# Altium schematic symbol library XLib.SchLib: 198 symbols (part 1 of 2)
Pins are listed as number, name and electrical type; pins without a type are passive.

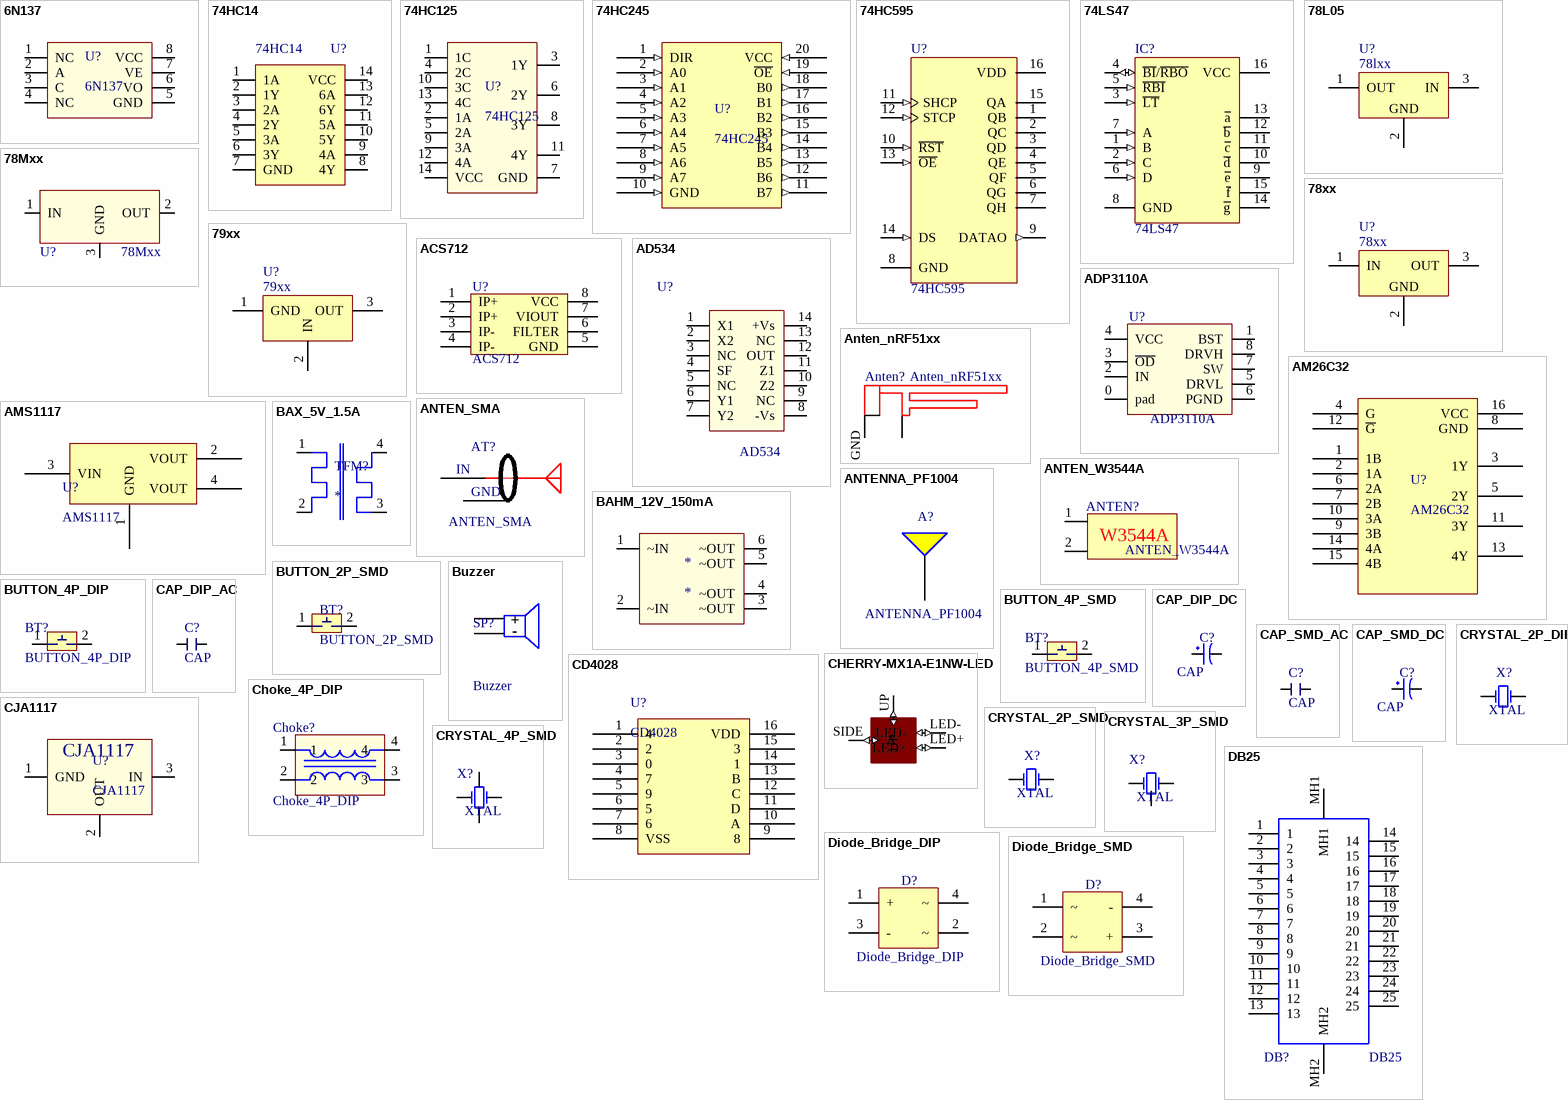
[diagram p0: symbols 6N137 to Diode_Bridge_SMD]

## 6N137
designator U?
footprint SMD_8
pins: 1 NC, 2 A, 3 C, 4 NC, 5 GND, 6 VO, 7 VE, 8 VCC

## 74HC14
designator U?
footprint SOIC14
pins: 1 1A, 2 1Y, 3 2A, 4 2Y, 5 3A, 6 3Y, 7 GND, 8 4Y, 9 4A, 10 5Y, 11 5A, 12 6Y, 13 6A, 14 VCC

## 74HC125
designator U?
Quad. Bus Buffer Gates (with 3-state outputs).
footprint SOIC14
pins: 1 1C, 2 1A, 3 1Y, 4 2C, 5 2A, 6 2Y, 7 GND, 8 3Y, 9 3A, 10 3C, 11 4Y, 12 4A, 13 4C, 14 VCC

## 74HC245
designator U?
Octal 3−State Noninverting Bus Tranceiver
footprint SOIC20 (SOIC, 20-Leads, Body 12.8x7.5mm, Pitch 1.27mm, IPC Medium Density)
footprint TSSOP20 (Shrink Small Outline; 20 Leads; Body Width 4.4 mm; Pitch 0.65 mm)
pins: 1 DIR (in), 2 A0 (in), 3 A1 (in), 4 A2 (in), 5 A3 (in), 6 A4 (in), 7 A5 (in), 8 A6 (in), 9 A7 (in), 10 GND (in), 11 B7 (out), 12 B6 (out), 13 B5 (out), 14 B4 (out), 15 B3 (out), 16 B2 (out), 17 B1 (out), 18 B0 (out), 19 ~{OE} (in), 20 VCC (in)

## 74HC595
designator U?
IC 8-Bit Serial-Input/Serial or Prallel-Output Shift Register with Latched 3-State Outputs; Published: 15-Apr-2002; DatasheetVersion: Mar-2000; PackageVersion: Apr-2000; PackageReference: 648-08; Publisher: Altium Limited; PackageDescription: DIP; 16 Leads; Row Spacing 7.62 mm; Pitch 2.54 mm; Code_JEDEC: MS-001-BB; ComponentLink1Description: Manufacturer Link; ComponentLink1URL: http://www.onsemi.com/; ComponentLink2Description: Datasheet; ComponentLink2URL: http://www.onsemi.com/pub/Collateral/MC74HC595A-D.PDF
footprint DIP16 (Footprint not found)
footprint SOP16 (Small Outline; 16 Leads; Body Width 5.6 mm; Pitch 1.27 mm)
pins: 1 QB (hiz), 2 QC (hiz), 3 QD (hiz), 4 QE (hiz), 5 QF (hiz), 6 QG (hiz), 7 QH (hiz), 8 GND (power), 9 DATAO (out), 10 ~{RST} (in), 11 SHCP (in), 12 STCP (in), 13 ~{OE} (in), 14 DS (in), 15 QA (hiz), 16 VDD (power)

## 74LS47
designator IC?
BCD to 7-Segment Decoder/Driver; Value: 7447 , 74247
footprint DIP16 (16 PIN, W 300mil, Pin to pin 100mil)
footprint SOIC16 (Small Outline; 16 Leads; Body Width 5.6 mm; Pitch 1.27 mm)
pins: 1 B (in), 2 C (in), 3 ~{LT} (in), 4 ~{BI}/~{RBO} (io), 5 ~{RBI} (in), 6 D (in), 7 A (in), 8 GND (power), 9 ~{e} (oc), 10 ~{d} (oc), 11 ~{c} (oc), 12 ~{b} (oc), 13 ~{a} (oc), 14 ~{g} (oc), 15 ~{f} (oc), 16 VCC (power)

## 78L05
designator U?, comment 78lxx
78L05 SOT89_MH; Note: Tab is connected to pin 3 (GND).; Published: 24-Aug-2001; LatestRevisionDate: 17-Jul-2002; LatestRevisionNote: Re-released for DXP Platform.; DatasheetVersion: Apr-1994; PackageReference: SOT82C; Publisher: Altium Limited; PackageDescription: SIP; 3 Leads; Body 10.9 x 7.6 x 2.6 mm (typ); Pitch 2.2 mm; ComponentLink1Description: Manufacturer Link; ComponentLink1URL: http://www.st.com/; ComponentLink2Description: Datasheet; ComponentLink2URL: http://www.st.com/stonline/products/literature/ds/2146/l78m05c.pdf
footprint SOT89
pins: 1 OUT (power), 2 GND (power), 3 IN (power)

## 78Mxx
designator U?
footprint TO-252; pin to pad 2>3 3>2
pins: 1 IN, 2 OUT, 3 GND

## 78xx
designator U?
Note: Tab is connected to pin 3 (GND).; Published: 24-Aug-2001; LatestRevisionDate: 17-Jul-2002; LatestRevisionNote: Re-released for DXP Platform.; DatasheetVersion: Apr-1994; PackageReference: SOT82C; Publisher: Altium Limited; PackageDescription: SIP; 3 Leads; Body 10.9 x 7.6 x 2.6 mm (typ); Pitch 2.2 mm; ComponentLink1Description: Manufacturer Link; ComponentLink1URL: http://www.st.com/; ComponentLink2Description: Datasheet; ComponentLink2URL: http://www.st.com/stonline/products/literature/ds/2146/l78m05c.pdf
footprint TO220
footprint TO220DH (TO-220 - 1-2-3)
footprint TO220H1 (TO-220 - 1-2-3)
footprint TO220H2 (TO-220 - 1-2-3)
footprint TO220H3 (TO-220 1-2-3)
footprint TO220H4 (TO-220 1-2-3)
footprint TO220H4DH
footprint TO220UH (TO-220 - 1-2-3)
pins: 1 IN (power), 2 IN (power), 3 OUT (power)
text: GND

## 79xx
designator U?
Note: Tab is connected to pin 3 (GND).; Published: 24-Aug-2001; LatestRevisionDate: 17-Jul-2002; LatestRevisionNote: Re-released for DXP Platform.; DatasheetVersion: Apr-1994; PackageReference: SOT82C; Publisher: Altium Limited; PackageDescription: SIP; 3 Leads; Body 10.9 x 7.6 x 2.6 mm (typ); Pitch 2.2 mm; ComponentLink1Description: Manufacturer Link; ComponentLink1URL: http://www.st.com/; ComponentLink2Description: Datasheet; ComponentLink2URL: http://www.st.com/stonline/products/literature/ds/2146/l78m05c.pdf
footprint TO220
footprint TO220DH (TO-220 - 1-2-3)
footprint TO220H1 (TO-220 - 1-2-3)
footprint TO220H2 (TO-220 - 1-2-3)
footprint TO220H3 (TO-220 1-2-3)
footprint TO220H4 (TO-220 1-2-3)
footprint TO220H4DH
footprint TO220UH (TO-220 - 1-2-3)
pins: 1 GND (power), 2 IN (power), 3 OUT (power)

## ACS712
designator U?
IC Current Sensor
footprint SOP8
pins: 1 IP+, 2 IP+, 3 IP-, 4 IP-, 5 GND, 6 FILTER, 7 VIOUT, 8 VCC

## AD534
designator U?
footprint DIP14
pins: 1 X1, 2 X2, 3 NC, 4 SF, 5 NC, 6 Y1, 7 Y2, 8 -Vs, 9 NC, 10 Z2, 11 Z1, 12 OUT, 13 NC, 14 +Vs

## ADP3110A
designator U?
IC
footprint DFN8-3x3
pins: 0 pad, 1 BST, 2 IN, 3 ~{OD}, 4 VCC, 5 DRVL, 6 PGND, 7 SW, 8 DRVH

## AM26C32
designator U?
Quadruple Differential Line Receiver
footprint DIP16 (16 PIN, W 300mil, Pin to pin 100mil)
footprint SOIC16 (Small Outline; 16 Leads; Body Width 5.6 mm; Pitch 1.27 mm)
pins: 1 1B, 2 1A, 3 1Y, 4 G, 5 2Y, 6 2A, 7 2B, 8 GND, 9 3B, 10 3A, 11 3Y, 12 ~{G}, 13 4Y, 14 4A, 15 4B, 16 VCC

## AMS1117
designator U?
IC LDO
footprint SOT223
pins: 1 GND, 2 VOUT, 3 VIN, 4 VOUT

## Anten_nRF51xx
designator Anten?
footprint ANTENA_RF_2.4GHZ
pins: 1, GND 2

## ANTEN_SMA
designator AT?
footprint ANTEN_SMA_SMD_BOARD_EDGE
footprint ANTEN_SMA_DIP_5P
pins: 1 IN, GND

## ANTEN_W3544A
designator ANTEN?
footprint ANTEN_W3544a
pins: 1, 2
text: W3544A

## ANTENNA_PF1004
designator A?
footprint ANTEN_PF1004
pins: 1

## BAHM_12V_150mA
designator *
footprint BAHM_12V_150mA
pins: 1 ~IN (power), 2 ~IN (power), 3 ~OUT (power), 4 ~OUT (power), 5 ~OUT (power), 6 ~OUT (power)

## BAX_5V_1.5A
designator TFM?
footprint bax_5V_1.5A
pins: 1, 2, 3, 4

## BUTTON_2P_SMD
designator BT?
footprint BUTTON_2P_SMD_3X6X2.5MM
footprint BUTTON_2P_SMD_3X4X2MM
footprint BUTTON_2P_SMD_3x7x3.5mm
pins: 1, 2

## BUTTON_4P_DIP
designator BT?
footprint BUTTON_4P_DIP_12x12-B3F
pins: 1, 2

## BUTTON_4P_SMD
designator BT?
footprint BUTTON_4P_SMD_6.2x6.2MM
footprint BUTTON_4P_SMD_12x12-B3F
footprint BUTTON_4P_SMD_3X4X2MM
footprint BUTTON_4P_SMD_3X4X2.5MM
footprint BUTTON_4P_SMD_4X4X1.2
footprint BUTTON_4P_SMD_4.5X4.5
pins: 1, 2

## Buzzer
designator SP?
Loudspeaker; Published: 24-Mar-1999; LatestRevisionDate: 17-Jul-2002; LatestRevisionNote: Re-released for DXP Platform.; PackageReference: PIN2; Publisher: Altium Limited
footprint BUZZER
pins: 1 +, 2 -

## CAP_DIP_AC
designator C?, comment CAP
footprint CAP_CBB_15MM
footprint CAP_CBB_19MM
footprint CAP_CER-2.54MM
footprint CAP_PP_15MM-18x8x14MM
footprint CAP_CBB_25MM
footprint CAP_HV_D6_P5
footprint CAP_CBB_5MM
pins: 1, 2

## CAP_DIP_DC
designator C?, comment CAP
footprint CAP_ELEC-5MM (Tu hoa < 22uF/16>50V)
footprint CAP_ELEC-8mm
footprint CAP_ELEC-10mm
footprint CAP_ELEC-18MM (Tu hoa 4700uF/25V)
footprint CAP_ELEC-22MM
footprint CAP_SMD_TANTA_3216
footprint CAP_SMD_TANTA_6032
footprint CAP_SMD_TANTA_7343
pins: 1, 2

## CAP_SMD_AC
designator C?, comment CAP
footprint CAP_SMD_0402
footprint CAP_SMD_0603
footprint CAP_SMD_0805
footprint CAP_SMD_1206
footprint CAP_SMD_1812
footprint CAP_SMD_2520
pins: 1, 2

## CAP_SMD_DC
designator C?, comment CAP
footprint CAP_SMD_TANTA_3216
footprint CAP_SMD_TANTA_6032
footprint CAP_SMD_TANTA_7343
footprint CAP_SMD_TANTA_3528
pins: 1, 2

## CD4028
designator U?
footprint SOP16 (Small Outline; 16 Leads; Body Width 5.6 mm; Pitch 1.27 mm)
pins: 1 4, 2, 3 0, 4 7, 5 9, 6 5, 7 6, 8 VSS, 9 8, 10 A, 11 D, 12 C, 13 B, 14 1, 15 3, 16 VDD

## CHERRY-MX1A-E1NW-LED
designator ?, comment A cherry MX NW switch, but also with a place to put a LED  (value not drawn)
GateName_1: G$1; SymbolName_1: CHERYMX-NN-LED; DeviceSetName: CHERRY-MX1A-E1NW-LED; LibraryName: my_parts; Package: CHERRYMX-NN-LED
footprint CHERRYMX-NN-LED
pins: LED+ (io), LED- (io), SIDE A (io), UP (io)

## Choke_4P_DIP
designator Choke?
footprint CHOKE_COMMON_MODE_UU10.5
pins: 1, 2, 3, 4

## CJA1117
designator U?
footprint SOT89
pins: 1 GND, 2 OUT, 3 IN

## CRYSTAL_2P_DIP
designator X?, comment XTAL
footprint HC49S_CRYSTAL (Footprint not found)
pins: 1 OSC1, 2 OSC2

## CRYSTAL_2P_SMD
designator X?, comment XTAL
footprint CRYSTAL_SMD_2P_FC-135 (Hand Drawn, 2-Leads, Body 3.2x1.5mm, Pitch 2.5mm)
footprint CRYSTAL_SMD_2P_5032
pins: 1 OSC1, 2 OSC2

## CRYSTAL_3P_SMD
designator X?, comment XTAL
footprint Crystal Ceramic_Resonator 3.2x1.3x0.7mm
pins: 1 OSC1, 2 OSC2, 3 OSC2

## CRYSTAL_4P_SMD
designator X?, comment XTAL
footprint CRYSTAL_SMD_4P_6035
footprint CRYSTAL_SMD_4P_3225
pins: 1 OSC1, 2 OSC2, 3 OSC2, 4 OSC2

## DB25
designator DB?
footprint DB25_DN
pins: 1, 2, 3, 4, 5, 6, 7, 8, 9, 10, 11, 12, 13, 14, 15, 16, 17, 18, 19, 20, 21, 22, 23, 24, 25, MH1, MH2

## Diode_Bridge_DIP
designator D?
footprint DIODE_BRIDGE_10A
footprint DIODE_BRIDGE_25-23A
footprint DIODE_BRIDGE_1A
footprint DIODE_BRIDGE_2A (CAU 2A DET)
footprint DIODE_BRIDGE_5A (Brigde 5A)
footprint DIODE_BRIDGE_6A (Brigde 6A)
footprint DIODE_BRIDGE_8A (Brigde 8A)
footprint DIODE_BRIDGE_35A (35A/1000V)
pins: 1 +, 2 ~, 3 -, 4 ~

## Diode_Bridge_SMD
designator D?
footprint SOP4-BD
pins: 1 ~, 2 ~, 3 +, 4 -

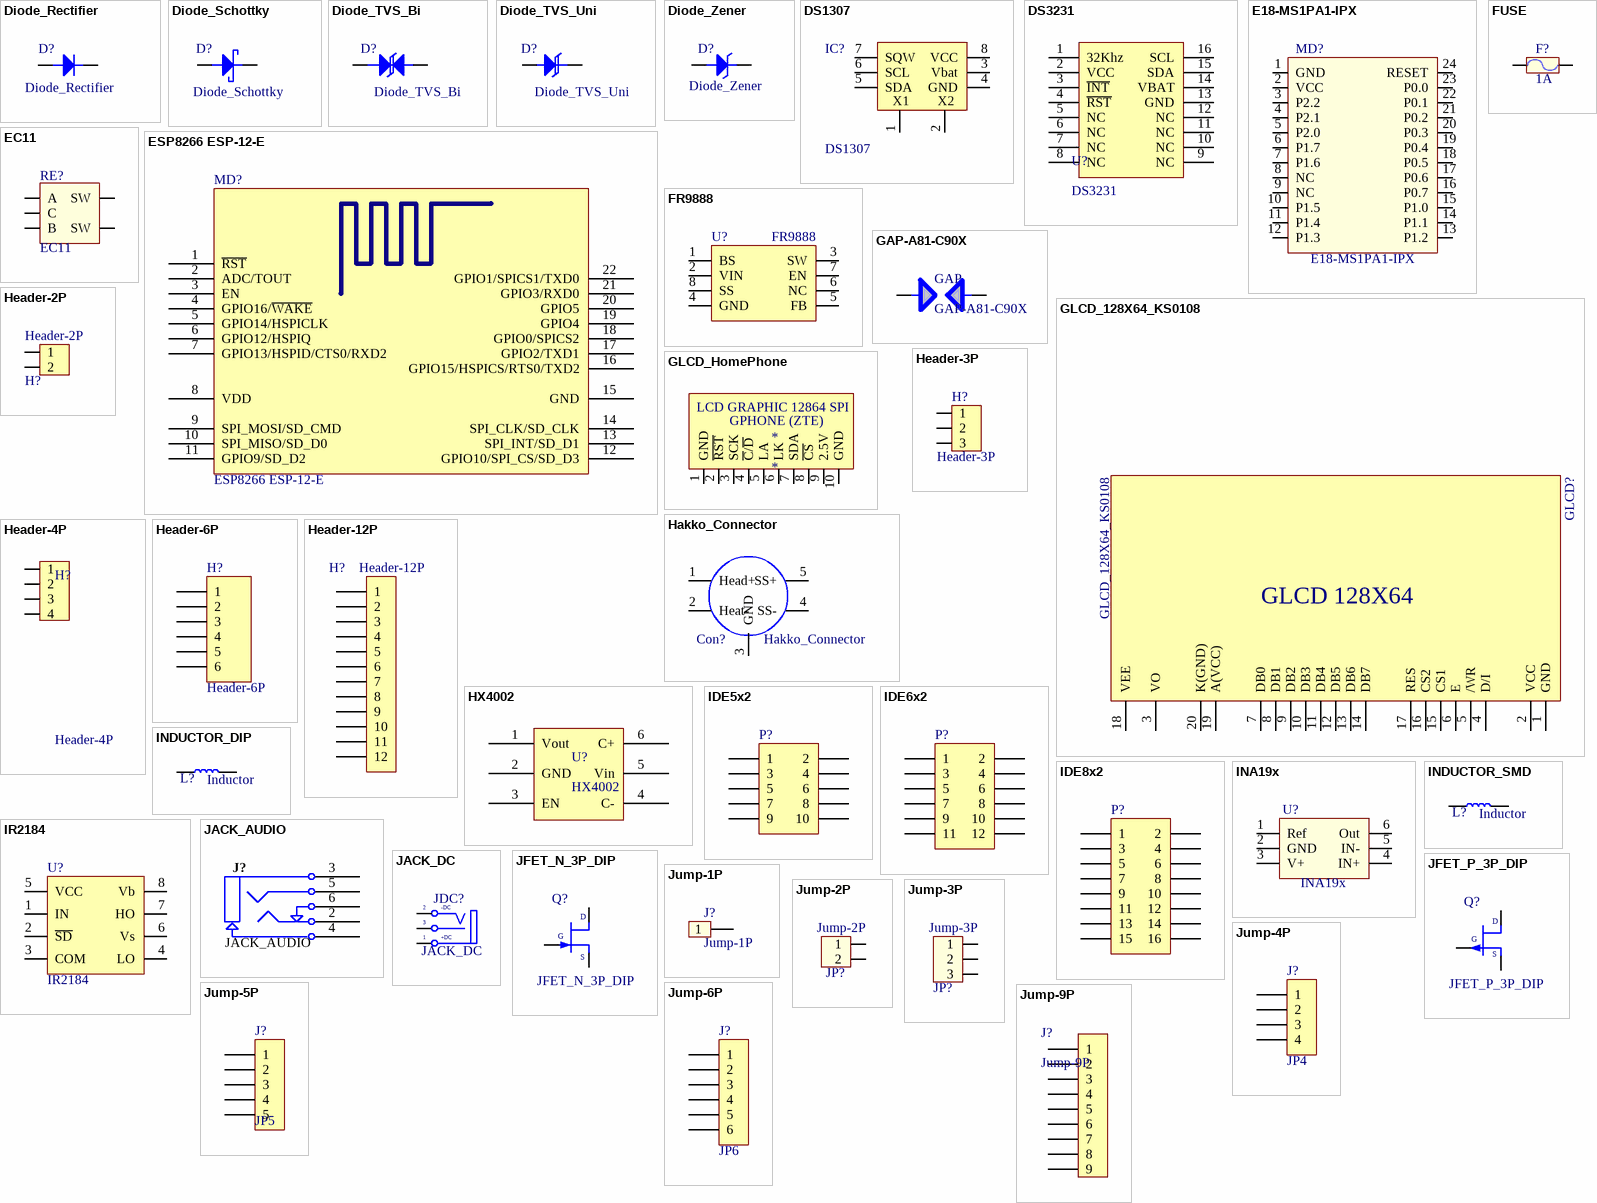
[diagram p1: symbols Diode_Rectifier to Jump-9P]

## Diode_Rectifier
designator D?
footprint SOD123
footprint DO-35
footprint DO-214AB
footprint SMA
footprint DO-41
footprint DO-201-AD
pins: 1, 2

## Diode_Schottky
designator D?
footprint SOD80
footprint DO35
footprint SOD123
footprint DO214
footprint SMA
footprint sod523 (SODFL, 2-Leads, Body 0.80x1.60mm, IPC Medium Density)
footprint DO214AB
pins: 1, 2

## Diode_TVS_Bi
designator D?
footprint SOD80
footprint DO35
footprint SOD123
footprint DO214
footprint SMA
footprint SMB (Magnetic-Core Inductor with Winding Polarity Marking; 2 Leads)
pins: 1, 2

## Diode_TVS_Uni
designator D?
footprint SOD80
footprint DO35
footprint SOD123
footprint DO214
footprint SMA
footprint SMB (Magnetic-Core Inductor with Winding Polarity Marking; 2 Leads)
pins: 1, 2

## Diode_Zener
designator D?
footprint SOD80
footprint DO35
footprint SOD123
footprint DO214
footprint SMA
footprint DO214AB
footprint SMB
pins: 1, 2

## DS1307
designator IC?
Value: DS1307
footprint SOP8
pins: 1 X1, 2 X2, 3 Vbat, 4 GND, 5 SDA, 6 SCL, 7 SQW, 8 VCC

## DS3231
designator U?
footprint SO16
pins: 1 32Khz (power), 2 VCC (power), 3 ~{INT} (power), 4 ~{RST} (power), 5 NC (power), 6 NC (power), 7 NC (power), 8 NC (power), 9 NC (power), 10 NC (power), 11 NC (power), 12 NC (power), 13 GND (power), 14 VBAT (power), 15 SDA (power), 16 SCL (power)

## E18-MS1PA1-IPX
designator MD?
footprint E18-MS1PA1-IPX
pins: 1 GND, 2 VCC, 3 P2.2, 4 P2.1, 5 P2.0, 6 P1.7, 7 P1.6, 8 NC, 9 NC, 10 P1.5, 11 P1.4, 12 P1.3, 13 P1.2, 14 P1.1, 15 P1.0, 16 P0.7, 17 P0.6, 18 P0.5, 19 P0.4, 20 P0.3, 21 P0.2, 22 P0.1, 23 P0.0, 24 RESET

## EC11
designator RE?
Rotary Encoder
footprint EC11
pins: 1 A, 2 C, 3 B, 4 SW, 5 SW

## ESP8266 ESP-12-E
designator MD?
footprint ESP8266-12 (ESP8266)
footprint MD_ESP8266_12F (ESP8266)
pins: 1 ~{RST} "Reset", 2 ADC/TOUT "ADC Input Or TOUT Output", 3 EN "Chip enable", 4 GPIO16/~{WAKE} "GPIO16 or Deep-Sleep Wakeup", 5 GPIO14/HSPICLK "GPIO14 or SPI CLK", 6 GPIO12/HSPIQ "GPIO12 or SPIQ", 7 GPIO13/HSPID/CTS0/RXD2 "GPIO13 or SPID", 8 VDD "Power supply", 9 SPI_MOSI/SD_CMD "GPIO14 or SPI CLK", 10 SPI_MISO/SD_D0 "GPIO12 or SPIQ", 11 GPIO9/SD_D2 "GPIO13 or SPID", 12 GPIO10/SPI_CS/SD_D3 "GPIO15 or SPICS", 13 SPI_INT/SD_D1 "GPIO2 or TX", 14 SPI_CLK/SD_CLK "GPIO0 or SPICS2", 15 GND "Power ground", 16 GPIO15/HSPICS/RTS0/TXD2 "GPIO15 or SPICS", 17 GPIO2/TXD1 "GPIO2 or TX", 18 GPIO0/SPICS2 "GPIO0 or SPICS2", 19 GPIO4 "GPIO5", 20 GPIO5 "GPIO4", 21 GPIO3/RXD0 "GPIO3 or UART RXD", 22 GPIO1/SPICS1/TXD0 "GPIO1 or UART TXD"

## FR9888
designator U?
footprint SOP8-PAD
pins: 0 GND hidden, 1 BS, 2 VIN, 3 SW, 4 GND, 5 FB, 6 NC, 7 EN, 8 SS

## FUSE
designator F?, comment 1A
footprint Fuse_3.6x10mm
pins: 1, 2

## GAP-A81-C90X
designator GAP
footprint A81-C90X
pins: 1, 2

## GLCD_128X64_KS0108
designator GLCD?
LatestRevisionDate: 17-Jul-2002; LatestRevisionNote: Re-released for DXP Platform.; Publisher: Altium Limited
footprint LCD128X64_Graphic (LCD Graphic 128x64, 20 pin)
pins: 1 GND, 2 VCC, 3 VO, 4 D/I, 5 /WR, 6 E, 7 DB0, 8 DB1, 9 DB2, 10 DB3, 11 DB4, 12 DB5, 13 DB6, 14 DB7, 15 CS1, 16 CS2, 17 RES, 18 VEE, 19 A(VCC), 20 K(GND)
2 alternate drawings of the same symbol
text: GLCD 128X64

## GLCD_HomePhone
designator *
pins: 1 GND, 2 ~{RST}, 3 SCK, 4 ~{C}/~{D}, 5 LA, 6 LK, 7 SDA, 8 ~{CS}, 9 2.5V, 10 GND
text: LCD GRAPHIC 12864 SPI; GPHONE (ZTE)

## Hakko_Connector
designator Con?
footprint DIN_CONNECTOR_5P
pins: 1 Head+, 2 Heat-, 3 GND, 4 SS-, 5 SS+

## Header-2P
designator H?
Header
footprint XH2.54_2P_MS (CON2)
footprint KF2EDG_2P_MA (Footprint not found)
footprint KF7.62_2P
footprint KF301_2P
footprint KF350_2P
footprint VH3.96-2P
footprint KF2EDG_2P_MS_SMD
pins: 1, 2

## Header-3P
designator H?
Header; Manufacturer: W¨¹rth Elektronik eiSos GmbH; partNo: 613002143121; ComponentLink1 Description: Manufacturer; ComponentLink2 Description: Datasheet; NoPins: 02; Created Date: 29 March 2013; ComponentLink1URL: http://www.we-online.com; ComponentLink2URL: http://katalog.we-online.de/em/datasheet/6130xx143121.pdf; Created by: Karrer Zheng
footprint KF2EDG_3P_MA
footprint KF7.62_3P
footprint KF301_3P
footprint KF350_3P (3,50mm - modular - blue - Horizontal wire entry - Pressure clamp - 8,4mm height - 03p)
footprint KF1000_3P
footprint KF8500_3P
footprint XH2.54_3P_MA (CON3)
footprint XH2.54_3P_MS (CON3)
footprint KF2EDG_3P_MS_SMD
pins: 1, 2, 3

## Header-4P
designator H?
Header; Manufacturer: W¨¹rth Elektronik eiSos GmbH; partNo: 613002143121; ComponentLink1 Description: Manufacturer; ComponentLink2 Description: Datasheet; NoPins: 02; Created Date: 29 March 2013; ComponentLink1URL: http://www.we-online.com; ComponentLink2URL: http://katalog.we-online.de/em/datasheet/6130xx143121.pdf; Created by: Karrer Zheng
footprint KF2EDG_4P_MA
footprint KF7.62_4P
footprint KF301_4P
footprint KF2510_4P_MS (Footprint not found)
footprint KF8500_4P
footprint XH2.54_4P_MA (CON4)
footprint XH2.54_4P_MS (CON4)
footprint KF2EDG_4P_MS_SMD
pins: 1, 2, 3, 4

## Header-6P
designator H?
Header; LatestRevisionDate: 17-Jul-2002; LatestRevisionNote: Re-released for DXP Platform.; Publisher: Altium Limited
footprint XH2.54_6P_MS (CON6)
pins: 1, 2, 3, 4, 5, 6

## Header-12P
designator H?
Header
footprint XH2.54_12P_MA (Footprint not found)
pins: 1, 2, 3, 4, 5, 6, 7 (power), 8 (power), 9 (power), 10 (power), 11 (power), 12 (power)

## HX4002
designator U?
footprint sot23-6
pins: 1 Vout, 2 GND, 3 EN, 4 C-, 5 Vin, 6 C+

## IDE5x2
designator P?
LatestRevisionDate: 17-Jul-2002; LatestRevisionNote: Re-released for DXP Platform.; Publisher: Altium Limited
footprint IDE_5x2_MA (Connector; Header; 5x2 Position)
footprint IDE_5x2_MS (Connector; Header; 5x2 Position)
pins: 1, 2, 3, 4, 5, 6, 7, 8, 9, 10

## IDE6x2
designator P?
LatestRevisionDate: 17-Jul-2002; LatestRevisionNote: Re-released for DXP Platform.; Publisher: Altium Limited
footprint IDE_6x2_MA (Connector; Header; 5x2 Position)
footprint IDE_6x2_MS (Connector; Header; 5x2 Position)
pins: 1, 2, 3, 4, 5, 6, 7, 8, 9, 10, 11, 12

## IDE8x2
designator P?
LatestRevisionDate: 17-Jul-2002; LatestRevisionNote: Re-released for DXP Platform.; Publisher: Altium Limited
footprint IDE_8x2_DC (Connector; Header; 5x2 Position)
footprint IDE_8x2_DT (Connector; Header; 5x2 Position)
pins: 1, 2, 3, 4, 5, 6, 7, 8, 9, 10, 11, 12, 13, 14, 15, 16

## INA19x
designator U?
footprint SC70-6
pins: 1 Ref, 2 GND, 3 V+, 4 IN+, 5 IN-, 6 Out

## INDUCTOR_DIP
designator L?, comment Inductor
cuon cam
footprint INDUCTOR_13.5x6MM_DIP (Body 13.5x6mm, 2 leads)
pins: 1, 2

## INDUCTOR_SMD
designator L?, comment Inductor
cuon cam
footprint INDUCTOR_SMD3225
footprint INDUCTOR_7.5x5MM_SMD
footprint INDUCTOR_7x7x3MM_SMD
footprint INDUCTOR_12X12X6MM_SMD (Footprint not found)
footprint INDUCTOR_10X10X3.5MM_SMD (Footprint not found)
footprint INDUCTOR_4.5x5MM_SMD (Footprint not found)
footprint INDUCTOR_SMD0805
footprint Inductor_SMD0603
pins: 1, 2

## IR2184
designator U?
Half-Bridge Driver
footprint SOP8
footprint DIP8
pins: 1 IN, 2 ~{SD}, 3 COM, 4 LO, 5 VCC, 6 Vs, 7 HO, 8 Vb

## JACK_AUDIO
designator J?
Connector type: AUDIO BLACK HEADER; Category: Connector; Status: Production
footprint JACK_AUDIO_3.5_PJ-327A (Footprint not found)
pins: 2, 3, 4, 5, 6

## JACK_DC
designator JDC?
Value: Jac DC
footprint DC-IN (Footprint not found)
pins: 1 T "Tip", 2 TN "Tip Normal (Break Contact)", 3 S (power) "Sleeve (Ground)"
text: -DC; +DC

## JFET_N_3P_DIP
designator Q?
footprint TO220
footprint TO220H1 (TO-220 - 1-2-3)
footprint TO220H2 (TO-220 - 1-2-3)
footprint TO220H3 (TO-220 1-2-3)
footprint TO220UH (TO-220 - 1-2-3)
footprint TO220DH (TO-220 - 1-2-3)
footprint TO220H4DH
footprint TO92 (TO, Flat Index; 3 In-Line, Axial Leads; Body Dia. 4.8mm)
pins: 1 G, 2 D, 3 S

## JFET_P_3P_DIP
designator Q?
footprint TO220
footprint TO220H1 (TO-220 - 1-2-3)
footprint TO220H2 (TO-220 - 1-2-3)
footprint TO220H3 (TO-220 1-2-3)
footprint TO220UH (TO-220 - 1-2-3)
footprint TO220DH (TO-220 - 1-2-3)
footprint TO220H4DH
footprint TO92 (TO, Flat Index; 3 In-Line, Axial Leads; Body Dia. 4.8mm)
pins: 1 G, 2 D, 3 S

## Jump-1P
designator J?
footprint JUMP-1P-2.54-DT
footprint Test_Point
pins: 1 (power)

## Jump-2P
designator JP?
Value: Connector 2
footprint JUMP-2P-2.54-DT (Connector; Header; 2 Position)
pins: 1, 2

## Jump-3P
designator JP?
Value: Connector 2
footprint JUMP-3P-2.54-DT (Connector; Header; 4 Position)
footprint JUMP-3P-1.27-DT
pins: 1, 2, 3

## Jump-4P
designator J?, comment JP4
footprint JUMP-4P-2.54-DT (Connector; Header; 4 Position)
footprint JUMP-4P-1.27-DT
pins: 1, 2, 3, 4

## Jump-5P
designator J?, comment JP5
footprint JUMP-5P-2.54-DT (Connector; Header; 4 Position)
footprint JUMP-5P-1.27-DT
pins: 1, 2, 3, 4, 5

## Jump-6P
designator J?, comment JP6
footprint JUMP-6P-2.54-DT (Connector; Header; 6 Position)
pins: 1, 2, 3, 4, 5, 6

## Jump-9P
designator J?
footprint JUMP-9P-2.54-DT
pins: 1, 2, 3, 4, 5, 6, 7 (power), 8 (power), 9 (power)

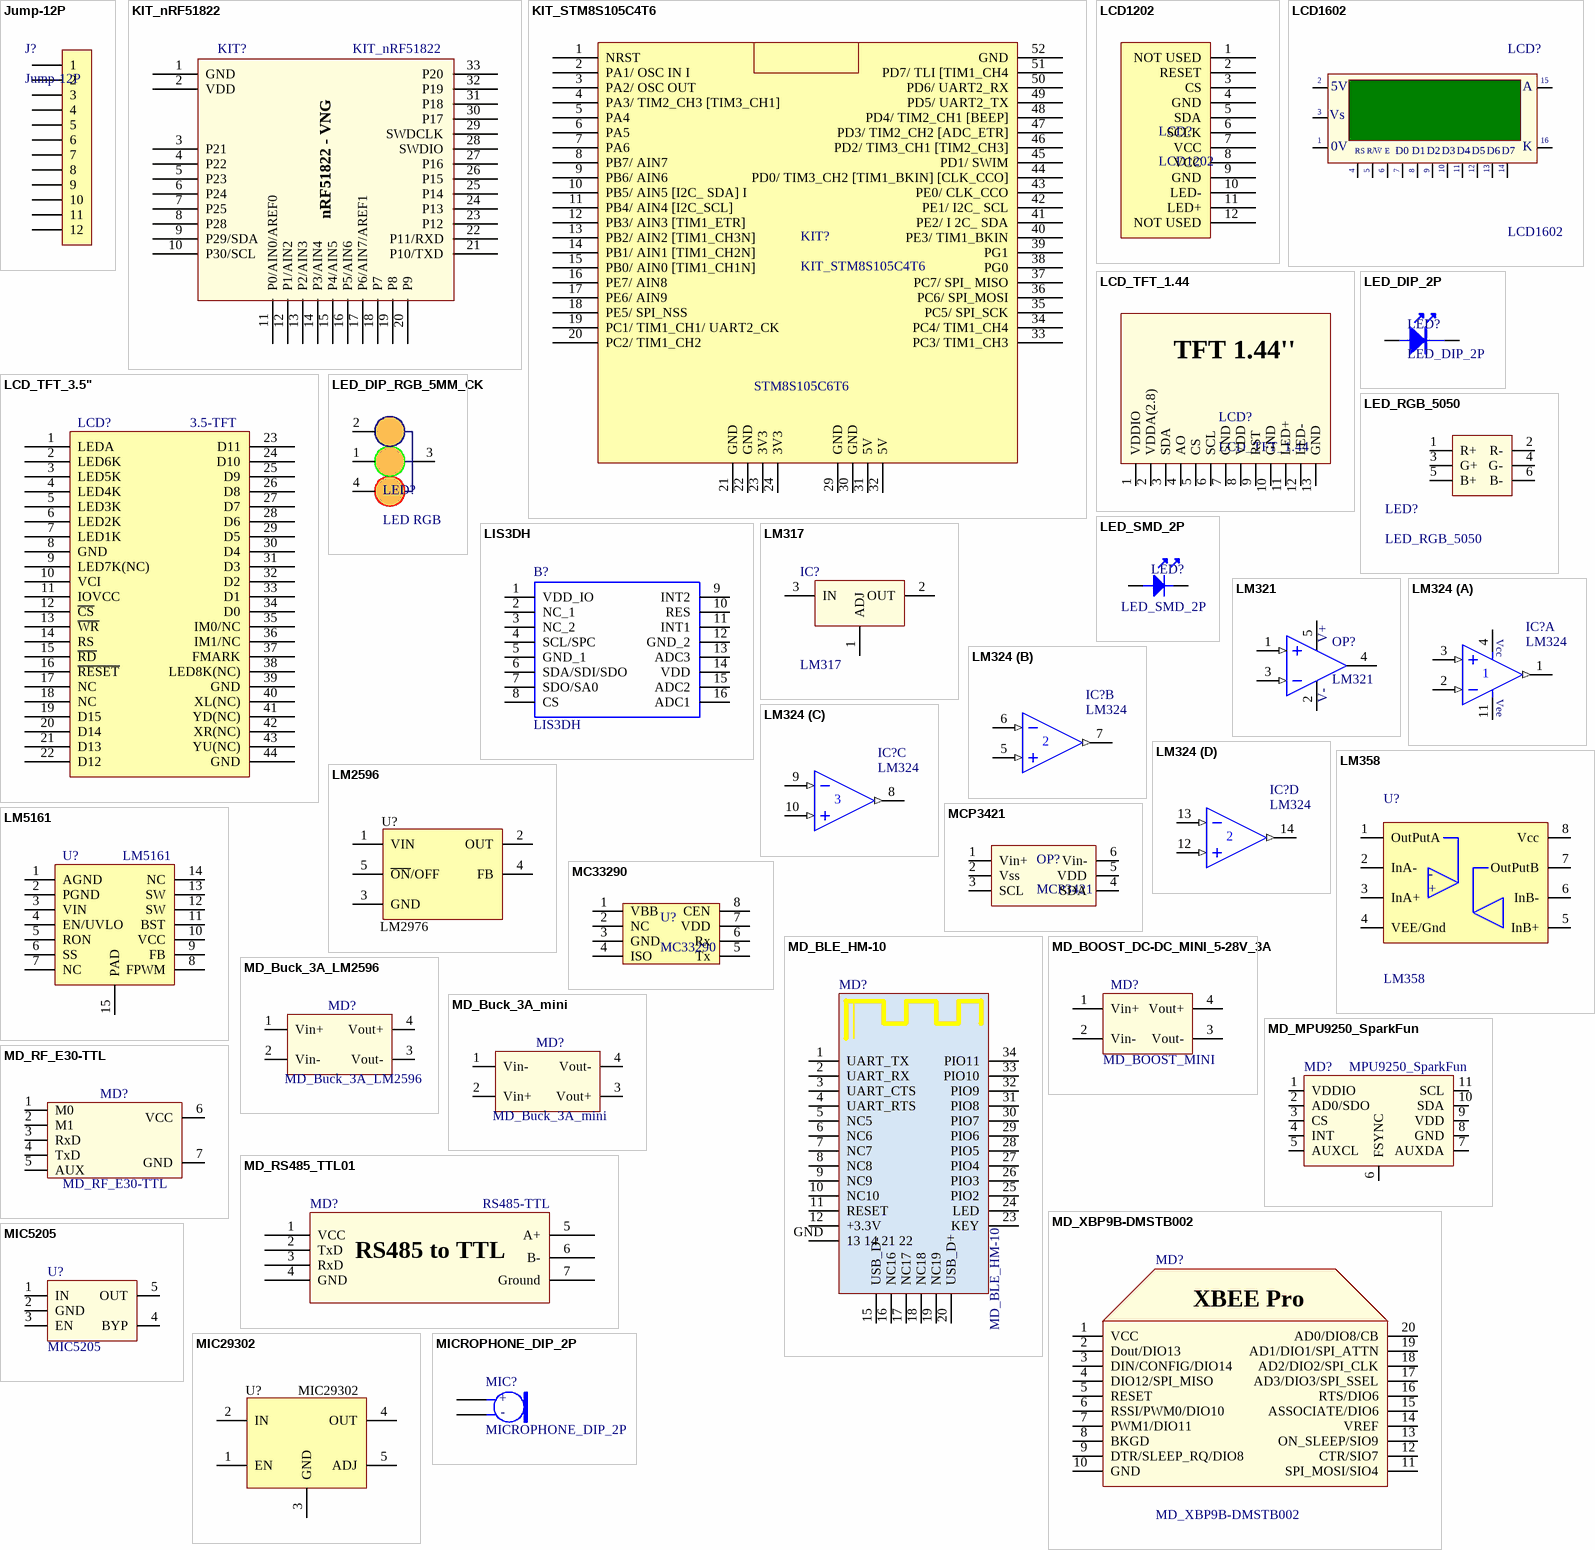
[diagram p2: symbols Jump-12P to MICROPHONE_DIP_2P]

## Jump-12P
designator J?
footprint JUMP-12P-2.54-DT
pins: 1, 2, 3, 4, 5, 6, 7 (power), 8 (power), 9 (power), 10 (power), 11 (power), 12 (power)

## KIT_nRF51822
designator KIT?
footprint KIT_nrf51822
pins: 1 GND (power), 2 VDD (power), 3 P21 (power), 4 P22 (power), 5 P23 (power), 6 P24 (power), 7 P25 (power), 8 P28 (power), 9 P29/SDA (power), 10 P30/SCL (power), 11 P0/AIN0/AREF0 (power), 12 P1/AIN2 (power), 13 P2/AIN3 (power), 14 P3/AIN4 (power), 15 P4/AIN5 (power), 16 P5/AIN6 (power), 17 P6/AIN7/AREF1 (power), 18 P7 (power), 19 P8 (power), 20 P9 (power), 21 P10/TXD (power), 22 P11/RXD (power), 23 P12 (power), 24 P13 (power), 25 P14 (power), 26 P15 (power), 27 P16 (power), 28 SWDIO (power), 29 SWDCLK (power), 30 P17 (power), 31 P18 (power), 32 P19 (power), 33 P20 (power)
text: nRF51822 - VNG

## KIT_STM8S105C4T6
designator KIT?
footprint KIT_STM8S1054T6
pins: 1 NRST, 2 PA1/ OSC IN I, 3 PA2/ OSC OUT, 4 PA3/ TIM2_CH3 [TIM3_CH1], 5 PA4, 6 PA5, 7 PA6, 8 PB7/ AIN7, 9 PB6/ AIN6, 10 PB5/ AIN5 [I2C_ SDA] I, 11 PB4/ AIN4 [I2C_SCL], 12 PB3/ AIN3 [TIM1_ETR], 13 PB2/ AIN2 [TIM1_CH3N], 14 PB1/ AIN1 [TIM1_CH2N], 15 PB0/ AIN0 [TIM1_CH1N], 16 PE7/ AIN8, 17 PE6/ AIN9, 18 PE5/ SPI_NSS, 19 PC1/ TIM1_CH1/ UART2_CK, 20 PC2/ TIM1_CH2, 21 GND (power), 22 GND (power), 23 3V3 (power), 24 3V3 (power), 29 GND (power), 30 GND (power), 31 5V (power), 32 5V (power), 33 PC3/ TIM1_CH3, 34 PC4/ TIM1_CH4, 35 PC5/ SPI_SCK, 36 PC6/ SPI_MOSI, 37 PC7/ SPI_ MISO, 38 PG0, 39 PG1, 40 PE3/ TIM1_BKIN, 41 PE2/ I 2C_ SDA, 42 PE1/ I2C_ SCL, 43 PE0/ CLK_CCO, 44 PD0/ TIM3_CH2 [TIM1_BKIN] [CLK_CCO], 45 PD1/ SWIM, 46 PD2/ TIM3_CH1 [TIM2_CH3], 47 PD3/ TIM2_CH2 [ADC_ETR], 48 PD4/ TIM2_CH1 [BEEP], 49 PD5/ UART2_TX, 50 PD6/ UART2_RX, 51 PD7/ TLI [TIM1_CH4, 52 GND (power)
text: STM8S105C6T6

## LCD1202
designator LCD?
footprint LCD_1202
pins: 1 NOT USED, 2 RESET, 3 CS, 4 GND, 5 SDA, 6 SCLK, 7 VCC, 8 VCC, 9 GND, 10 LED-, 11 LED+, 12 NOT USED

## LCD1602
designator LCD?
Value: LCD16x2A
footprint LCD_1602 (LCD dipslay 16x2, 16 pin)
pins: 1 GND, 2 VDD, 3 VEE, 4 RS, 5 R/~{W}, 6 ~{EN}, 7 D0, 8 D1, 9 D2, 10 D3, 11 D4, 12 D5, 13 D6, 14 D7, 15 A, 16 K
text: 5V; Vs; |; 0V; R/W; E

## LCD_TFT_1.44
designator LCD?
Lcd TFT
footprint LCD_TFT_1.44
pins: 1 VDDIO (power), 2 VDDA(2.8) (power), 3 SDA (power), 4 AO (power), 5 CS (power), 6 SCL (power), 7 GND (power), 8 VDD (power), 9 RST (power), 10 GND (power), 11 LED+ (power), 12 LED- (power), 13 GND (power)
text: TFT 1.44''

## LCD_TFT_3.5"
designator LCD?, comment 3.5-TFT
Lcd TFT
footprint LCD_TFT_3.5 (3.5inch TFT LCD)
pins: 1 LEDA, 2 LED6K, 3 LED5K, 4 LED4K, 5 LED3K, 6 LED2K, 7 LED1K, 8 GND, 9 LED7K(NC), 10 VCI, 11 IOVCC, 12 ~{CS}, 13 ~{WR}, 14 RS, 15 ~{RD}, 16 ~{RESET}, 17 NC, 18 NC, 19 D15, 20 D14, 21 D13, 22 D12, 23 D11, 24 D10, 25 D9, 26 D8, 27 D7, 28 D6, 29 D5, 30 D4, 31 D3, 32 D2, 33 D1, 34 D0, 35 IM0/NC, 36 IM1/NC, 37 FMARK, 38 LED8K(NC), 39 GND, 40 XL(NC), 41 YD(NC), 42 XR(NC), 43 YU(NC), 44 GND

## LED_DIP_2P
designator LED?
Led
footprint LED_FLAT_2x5mm
footprint LED_CIRCLE_2P_10MM
footprint LED_CIRCLE_2P_3MM (Footprintf LED phi 3)
pins: 1, 2

## LED_DIP_RGB_5MM_CK
designator LED?, comment LED RGB
Led
footprint LED_DIP_4P_5MM_RGB
pins: 1 A, 2 A, 3 K, 4 A

## LED_RGB_5050
designator LED?
footprint LED_5050
pins: 1 R+, 2 R-, 3 G+, 4 G-, 5 B+, 6 B-

## LED_SMD_2P
designator LED?
Led
footprint LED_0603
footprint LED_0805
footprint LED_1206
pins: 1, 2

## LIS3DH
designator B?
Sensor; Manufacturer_Name: STMicroelectronics; Allied_Number: 70390282; Manufacturer_Part_Number: LIS3DH; Mouser Part Number: 511-LIS3DH; Mouser Price/Stock: https://www.mouser.com/Search/Refine.aspx?Keyword=511-LIS3DH; RS Part Number: 7167046P; RS Price/Stock: http://uk.rs-online.com/web/p/products/7167046P; Allied Price/Stock: http://www.alliedelec.com/stmicroelectronics-lis3dh/70390282/; Datasheet Link: http://www.st.com/st-web-ui/static/active/en/resource/technical/document/datasheet/CD00274221.pdf
footprint LGA16-3X3X1
pins: 1 VDD_IO (power), 2 NC_1, 3 NC_2, 4 SCL/SPC, 5 GND_1, 6 SDA/SDI/SDO, 7 SDO/SA0, 8 CS, 9 INT2, 10 RES, 11 INT1, 12 GND_2, 13 ADC3, 14 VDD (power), 15 ADC2, 16 ADC1

## LM317
designator IC?
Adj Voltage +1.2 -> +37V; Value: LM317
footprint TO252
footprint TO220
footprint TO220DH (TO-220 - 1-2-3)
footprint TO220H1 (TO-220 - 1-2-3)
footprint TO220H2 (TO-220 - 1-2-3)
footprint TO220H3 (TO-220 1-2-3)
footprint TO220H4 (TO-220 1-2-3)
footprint TO220H4DH
footprint TO220UH (TO-220 - 1-2-3)
pins: 1 ADJ, 2 OUT, 3 IN

## LM321
designator OP?
Opamp
footprint sot23-5
pins: 1 IN+ (in), 2 V- (power), 3 IN- (in), 4 -V, 5 V+ (power)

## LM324
designator IC?
Opamp; Value: LM324
footprint DIP14
footprint sop14
part A pins: 1 OUT (out), 2 IN- (in), 3 IN+ (in), 4 V+ (power), 11 V- (power)
part B pins: 5 IN+ (in), 6 IN- (in), 7 OUT (out)
part C pins: 8 OUT (out), 9 IN- (in), 10 IN+ (in)
part D pins: 12 IN+ (in), 13 IN- (in), 14 OUT (out)
part A text: Vcc; Vee

## LM358
designator U?
Opamp
footprint SOP8
footprint DIP8
pins: 1 OutPutA, 2 InA-, 3 InA+, 4 VEE/Gnd, 5 InB+, 6 InB-, 7 OutPutB, 8 Vcc
text: -; +

## LM2596
designator U?, comment LM2976
Max Input Voltage: 12 V; Max Output Current: 3 (6.0 peak) A; Max Output Voltage: mV; Category: IC-Power; Min Input Voltage: mV; Min Output Voltage: mV; Mounting Technology: Surface Mount; Status: Unreleased; Supply Voltage: mV; Temperature Range: -40 to +125 degC
footprint TO263
footprint TO220-5
pins: 1 VIN (power), 2 OUT (power), 3 GND (power), 4 FB, 5 ~{ON}/OFF

## LM5161
designator U?
footprint HTSSOP14 (Shrink Small Outline; 20 Leads; Body Width 4.4 mm; Pitch 0.65 mm)
pins: 1 AGND (power), 2 PGND, 3 VIN (power), 4 EN/UVLO, 5 RON (power), 6 SS, 7 NC, 8 FPWM, 9 FB, 10 VCC, 11 BST, 12 SW, 13 SW, 14 NC, 15 PAD

## MC33290
designator U?
footprint SOP8
pins: 1 VBB, 2 NC, 3 GND, 4 ISO, 5 Tx, 6 Rx, 7 VDD, 8 CEN

## MCP3421
designator OP?
footprint sot23-6
pins: 1 Vin+ (power), 2 Vss (power), 3 SCL (power), 4 SDA (power), 5 VDD (power), 6 Vin- (power)

## MD_BLE_HM-10
designator MD?
footprint MD_BLE_HM-10
pins: 1 UART_TX, 2 UART_RX, 3 UART_CTS, 4 UART_RTS, 5 NC5, 6 NC6, 7 NC7, 8 NC8, 9 NC9, 10 NC10, 11 RESET, 12 +3.3V, 15 USB_D-, 16 NC16, 17 NC17, 18 NC18, 19 NC19, 20 USB_D+, 23 KEY, 24 LED, 25 PIO2, 26 PIO3, 27 PIO4, 28 PIO5, 29 PIO6, 30 PIO7, 31 PIO8, 32 PIO9, 33 PIO10, 34 PIO11, GND 13 14 21 22

## MD_BOOST_DC-DC_MINI_5-28V_3A
designator MD?, comment MD_BOOST_MINI
footprint MD_BOOST_DC-DC_MINI_5-28V_3A
pins: 1 Vin+, 2 Vin-, 3 Vout-, 4 Vout+

## MD_Buck_3A_LM2596
designator MD?
footprint MD_Buck_3A_LM2596
pins: 1 Vin+ (power), 2 Vin- (power), 3 Vout- (power), 4 Vout+ (power)

## MD_Buck_3A_mini
designator MD?
footprint MD_Buck_3A_mini
pins: 1 Vin- (power), 2 Vin+ (power), 3 Vout+ (power), 4 Vout- (power)

## MD_MPU9250_SparkFun
designator MD?, comment MPU9250_SparkFun
footprint MPU9250_SparkFun
pins: 1 VDDIO, 2 AD0/SDO, 3 CS, 4 INT, 5 AUXCL, 6 FSYNC, 7 AUXDA, 8 GND, 9 VDD, 10 SDA, 11 SCL

## MD_RF_E30-TTL
designator MD?
footprint MD_RF_E30-TTL
pins: 1 M0, 2 M1, 3 RxD, 4 TxD, 5 AUX, 6 VCC, 7 GND

## MD_RS485_TTL01
designator MD?, comment RS485-TTL
footprint MD_RS845_TTL
pins: 1 VCC, 2 TxD, 3 RxD, 4 GND, 5 A+, 6 B-, 7 Ground
text: RS485 to TTL

## MD_XBP9B-DMSTB002
designator MD?
RF Modules Zigbee; Manufacturer_Name: Digi International; Manufacturer_Part_Number: XBP9B-DMSTB002; Mouser Part Number: 888-XBP9B-DMSTB002; Mouser Price/Stock: https://www.mouser.com/Search/Refine.aspx?Keyword=888-XBP9B-DMSTB002; RS Part Number: *; RS Price/Stock: *; Datasheet Link: http://www.mouser.com/ds/2/111/ds_xbeepro900hp-218339.pdf
footprint MD_XBP9B-DMST-002
pins: 1 VCC, 2 Dout/DIO13, 3 DIN/CONFIG/DIO14, 4 DIO12/SPI_MISO, 5 RESET, 6 RSSI/PWM0/DIO10, 7 PWM1/DIO11, 8 BKGD, 9 DTR/SLEEP_RQ/DIO8, 10 GND, 11 SPI_MOSI/SIO4, 12 CTR/SIO7, 13 ON_SLEEP/SIO9, 14 VREF, 15 ASSOCIATE/DIO6, 16 RTS/DIO6, 17 AD3/DIO3/SPI_SSEL, 18 AD2/DIO2/SPI_CLK, 19 AD1/DIO1/SPI_ATTN, 20 AD0/DIO8/CB
text: XBEE Pro

## MIC5205
designator U?
Power
footprint SOT23-5
pins: 1 IN, 2 GND, 3 EN, 4 BYP, 5 OUT

## MIC29302
designator U?
High-Current Low Dropout Regulators; Max Input Voltage: 12 V; Max Output Current: 3 (6.0 peak) A; Max Output Voltage: mV; Category: IC-Power; Min Input Voltage: mV; Min Output Voltage: mV; Mounting Technology: Surface Mount; Status: Unreleased; Supply Voltage: mV; Temperature Range: -40 to +125 degC
footprint TO263
footprint TO220-5
pins: 1 EN (power), 2 IN (power), 3 GND (power), 4 OUT, 5 ADJ

## MICROPHONE_DIP_2P
designator MIC?
Microphone
footprint MICROPHONE_DIP_2P
pins: 1 +, 2 -

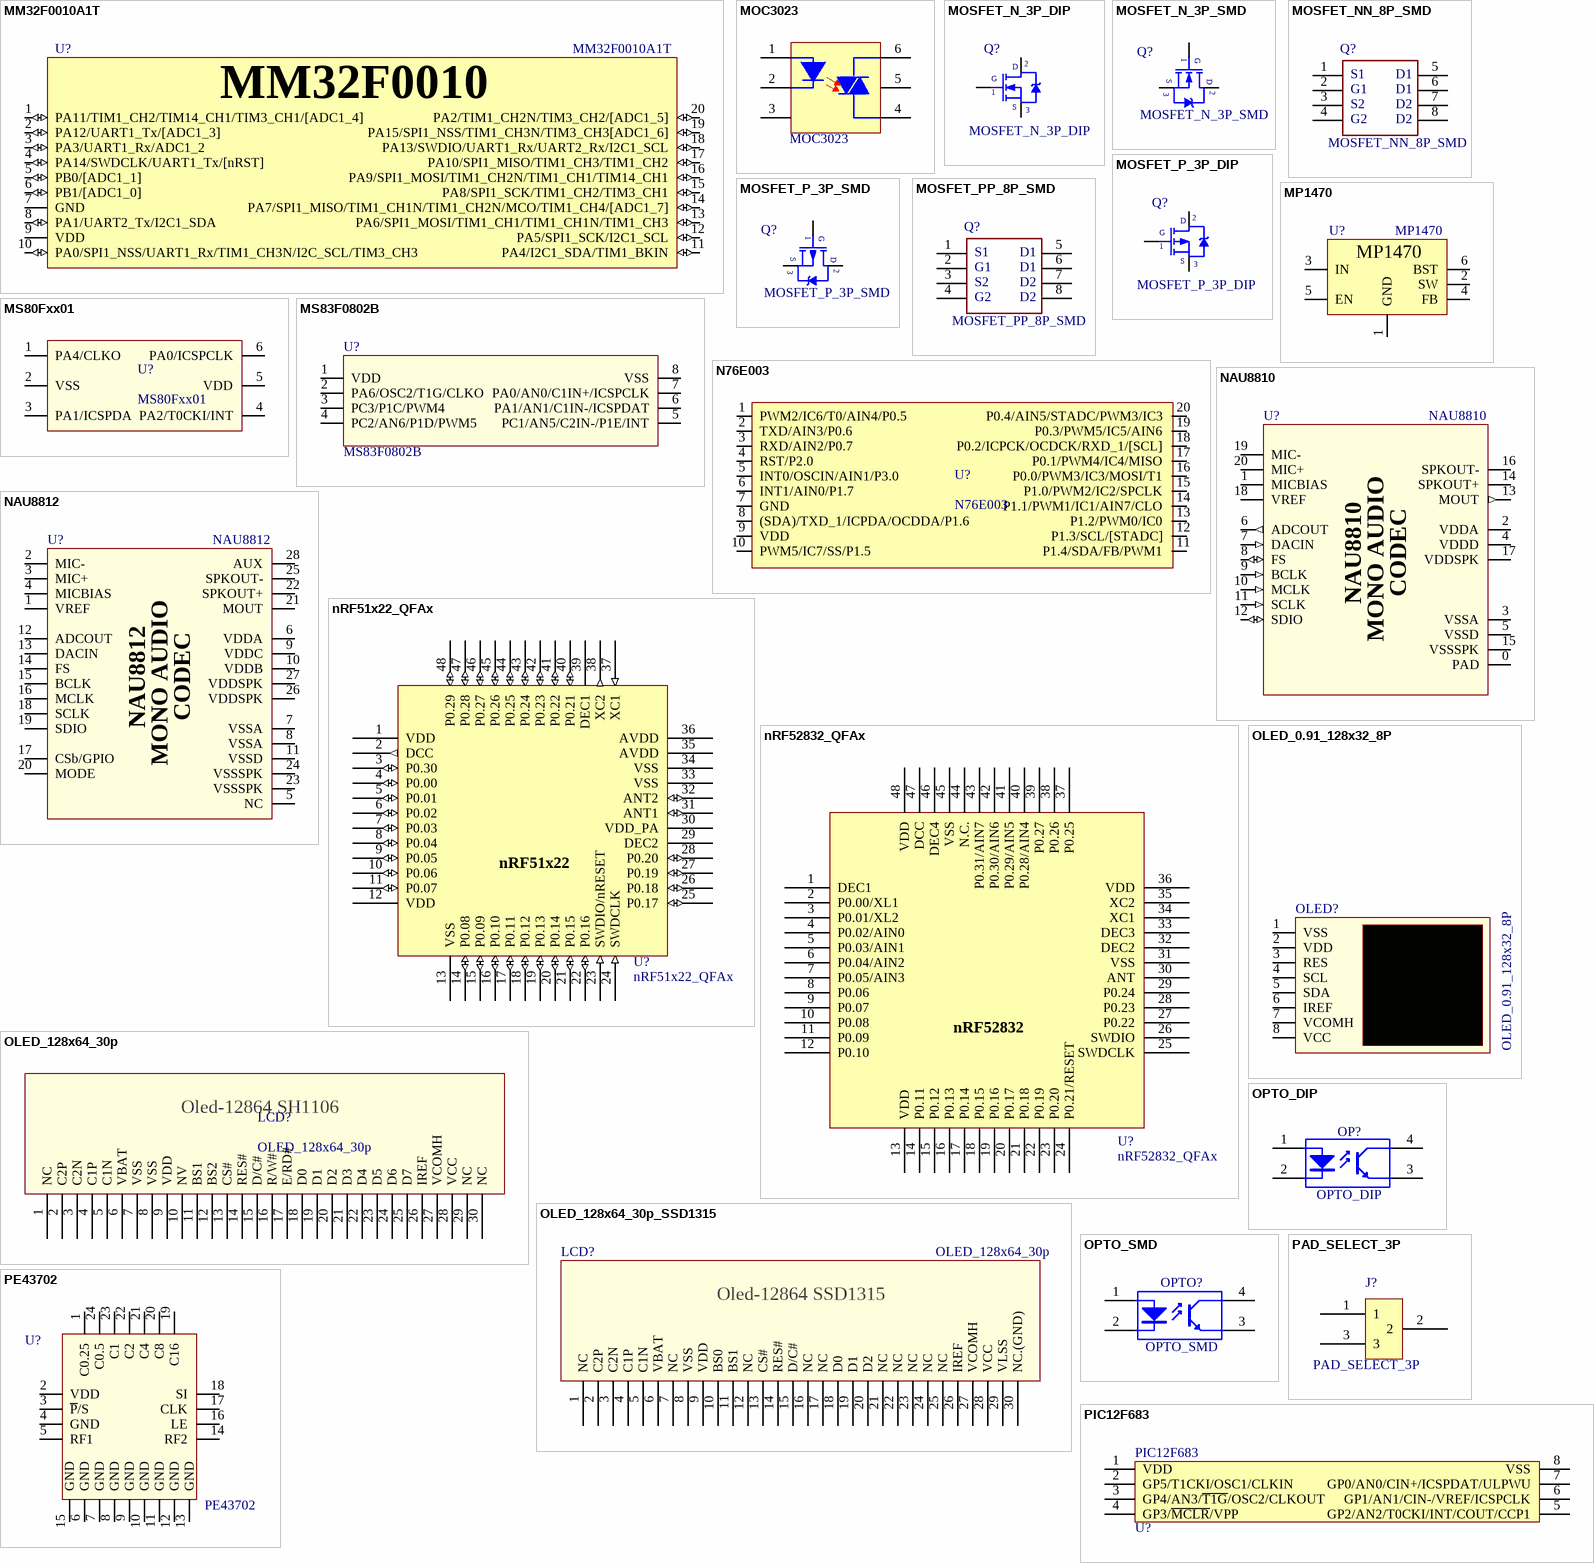
[diagram p3: symbols MM32F0010A1T to PIC12F683]

## MM32F0010A1T
designator U?
footprint TSSOP20 (Shrink Small Outline; 20 Leads; Body Width 4.4 mm; Pitch 0.65 mm)
pins: 1 PA11/TIM1_CH2/TIM14_CH1/TIM3_CH1/[ADC1_4] (io), 2 PA12/UART1_Tx/[ADC1_3] (io), 3 PA3/UART1_Rx/ADC1_2 (io), 4 PA14/SWDCLK/UART1_Tx/[nRST] (io), 5 PB0/[ADC1_1] (io), 6 PB1/[ADC1_0] (io), 7 GND, 8 PA1/UART2_Tx/I2C1_SDA (io), 9 VDD, 10 PA0/SPI1_NSS/UART1_Rx/TIM1_CH3N/I2C_SCL/TIM3_CH3 (io), 11 PA4/I2C1_SDA/TIM1_BKIN (io), 12 PA5/SPI1_SCK/I2C1_SCL (io), 13 PA6/SPI1_MOSI/TIM1_CH1/TIM1_CH1N/TIM1_CH3 (io), 14 PA7/SPI1_MISO/TIM1_CH1N/TIM1_CH2N/MCO/TIM1_CH4/[ADC1_7] (io), 15 PA8/SPI1_SCK/TIM1_CH2/TIM3_CH1 (io), 16 PA9/SPI1_MOSI/TIM1_CH2N/TIM1_CH1/TIM14_CH1 (io), 17 PA10/SPI1_MISO/TIM1_CH3/TIM1_CH2 (io), 18 PA13/SWDIO/UART1_Rx/UART2_Rx/I2C1_SCL (io), 19 PA15/SPI1_NSS/TIM1_CH3N/TIM3_CH3[ADC1_6] (io), 20 PA2/TIM1_CH2N/TIM3_CH2/[ADC1_5] (io)
text: MM32F0010

## MOC3023
designator TR
Opamp; MOC3023: MOC3023
footprint DIP6 (Footprint not found)
pins: 1 "Anot", 2 "Katot", 3, 4, 5, 6

## MOSFET_N_3P_DIP
designator Q?
footprint TO220
footprint TO220H1 (TO-220 - 1-2-3)
footprint TO220H2 (TO-220 - 1-2-3)
footprint TO220H3 (TO-220 1-2-3)
footprint TO220UH (TO-220 - 1-2-3)
footprint TO220DH (TO-220 - 1-2-3)
footprint TO220H4DH
footprint TO247
pins: 1 G, 2 D, 3 S

## MOSFET_N_3P_SMD
designator Q?
footprint SOT23 (SOT-23)
footprint TO252
footprint DFN8-5X6
pins: 1 G, 2 D, 3 S

## MOSFET_NN_8P_SMD
designator Q?
footprint SOP8
pins: 1 S_1, 2 S_2, 3 S_3, 4 G, 5 D_1, 6 D_2, 7 D_3, 8 D_4
text: S1; D1; G1; S2; D2; G2

## MOSFET_P_3P_DIP
designator Q?
footprint TO220
footprint TO220H1 (TO-220 - 1-2-3)
footprint TO220H2 (TO-220 - 1-2-3)
footprint TO220H3 (TO-220 1-2-3)
footprint TO220UH (TO-220 - 1-2-3)
footprint TO220DH (TO-220 - 1-2-3)
footprint TO220H4DH
footprint TO247
pins: 1 G, 2 D, 3 S

## MOSFET_P_3P_SMD
designator Q?
footprint SOT23 (SOT-23)
footprint TO252
footprint DFN8-5X6
pins: 1 G, 2 D, 3 S

## MOSFET_PP_8P_SMD
designator Q?
footprint SOP8
pins: 1 S_1, 2 S_2, 3 S_3, 4 G, 5 D_1, 6 D_2, 7 D_3, 8 D_4
text: S1; D1; G1; S2; D2; G2

## MP1470
designator U?
Buck 2A 4.7-16V 500Khz Sync
footprint SOT23-6
pins: 1 GND, 2 SW, 3 IN, 4 FB, 5 EN, 6 BST

## MS80Fxx01
designator U?
MCU
footprint SOT23-6
pins: 1 PA4/CLKO, 2 VSS, 3 PA1/ICSPDA, 4 PA2/T0CKI/INT, 5 VDD, 6 PA0/ICSPCLK

## MS83F0802B
designator U?
MCU
footprint SOP8
pins: 1 VDD, 2 PA6/OSC2/T1G/CLKO, 3 PC3/P1C/PWM4, 4 PC2/AN6/P1D/PWM5, 5 PC1/AN5/C2IN-/P1E/INT, 6 PA1/AN1/C1IN-/ICSPDAT, 7 PA0/AN0/C1IN+/ICSPCLK, 8 VSS

## N76E003
designator U?
footprint TSSOP20 (Shrink Small Outline; 20 Leads; Body Width 4.4 mm; Pitch 0.65 mm)
pins: 1 PWM2/IC6/T0/AIN4/P0.5, 2 TXD/AIN3/P0.6, 3 RXD/AIN2/P0.7, 4 RST/P2.0, 5 INT0/OSCIN/AIN1/P3.0, 6 INT1/AIN0/P1.7, 7 GND, 8 (SDA)/TXD_1/ICPDA/OCDDA/P1.6, 9 VDD, 10 PWM5/IC7/SS/P1.5, 11 P1.4/SDA/FB/PWM1, 12 P1.3/SCL/[STADC], 13 P1.2/PWM0/IC0, 14 P1.1/PWM1/IC1/AIN7/CLO, 15 P1.0/PWM2/IC2/SPCLK, 16 P0.0/PWM3/IC3/MOSI/T1, 17 P0.1/PWM4/IC4/MISO, 18 P0.2/ICPCK/OCDCK/RXD_1/[SCL], 19 P0.3/PWM5/IC5/AIN6, 20 P0.4/AIN5/STADC/PWM3/IC3

## NAU8810
designator U?
IC CODEC VOICE TELEPHONY / Mono Audio Codec with Speaker Driver; Manufacturer: Nuvoton; Manufacturer Part Number: NAU8812RG; Resolution: 24b; Operating Supply Voltage: 3.3V; Max Supply Voltage: 5.5V; Interface: Serial,I2S; Sampling Rate: 48KS/s; Supplier 1: Digi-Key; RoHS: Yes; Category: Integrated Circuits (ICs); Pricing 1: 336=1.60000 (USD); Mount: Surface Mount; Case/Package: SSOP; Number of Pins: 28; Min Operating Temperature: -40°C; Max Operating Temperature: 85°C; Package Quantity: 48; Packaging: Rail/Tube; Series: emPowerAudio™; Lead Free: Lead Free; RoHS Compliant: Yes; ComponentLink1URL: http://components.arrow.com/part/dataview/48474484S8584208N1904?src-supplier=Arrow+Electronics; ComponentLink1Description: http://components.arrow.com/part/dataview/48474484S8584208N1904?src-supplier=Arrow+Electronics; ComponentLink2URL: http://www.nuvoton.com/hq/resource-download.jsp?tp_GUID=DA00-FA5A77&src-supplier=Digi-Key; ComponentLink2Description: http://www.nuvoton.com/hq/resource-download.jsp?tp_GUID=DA00-FA5A77&src-supplier=Digi-Key
footprint QFN-20-4x4x0.75MM
pins: 0 PAD, 1 MICBIAS, 2 VDDA (power), 3 VSSA (power), 4 VDDD (power), 5 VSSD (power), 6 ADCOUT (out), 7 DACIN (in), 8 FS (io), 9 BCLK (in), 10 MCLK (in), 11 SCLK (in), 12 SDIO (io), 13 MOUT (out), 14 SPKOUT+, 15 VSSSPK, 16 SPKOUT-, 17 VDDSPK, 18 VREF, 19 MIC-, 20 MIC+
text: CODEC; MONO AUDIO

## NAU8812
designator U?
IC CODEC VOICE TELEPHONY / Mono Audio Codec with Speaker Driver; Manufacturer: Nuvoton; Manufacturer Part Number: NAU8812RG; Resolution: 24b; Operating Supply Voltage: 3.3V; Max Supply Voltage: 5.5V; Interface: Serial,I2S; Sampling Rate: 48KS/s; Supplier 1: Digi-Key; RoHS: Yes; Category: Integrated Circuits (ICs); Pricing 1: 336=1.60000 (USD); Mount: Surface Mount; Case/Package: SSOP; Number of Pins: 28; Min Operating Temperature: -40°C; Max Operating Temperature: 85°C; Package Quantity: 48; Packaging: Rail/Tube; Series: emPowerAudio™; Lead Free: Lead Free; RoHS Compliant: Yes; ComponentLink1URL: http://components.arrow.com/part/dataview/48474484S8584208N1904?src-supplier=Arrow+Electronics; ComponentLink1Description: http://components.arrow.com/part/dataview/48474484S8584208N1904?src-supplier=Arrow+Electronics; ComponentLink2URL: http://www.nuvoton.com/hq/resource-download.jsp?tp_GUID=DA00-FA5A77&src-supplier=Digi-Key; ComponentLink2Description: http://www.nuvoton.com/hq/resource-download.jsp?tp_GUID=DA00-FA5A77&src-supplier=Digi-Key
footprint SSOP28
pins: 1 VREF, 2 MIC-, 3 MIC+, 4 MICBIAS, 5 NC, 6 VDDA, 7 VSSA, 8 VSSA, 9 VDDC, 10 VDDB, 11 VSSD, 12 ADCOUT, 13 DACIN, 14 FS, 15 BCLK, 16 MCLK, 17 CSb/GPIO, 18 SCLK, 19 SDIO, 20 MODE, 21 MOUT, 22 SPKOUT+, 23 VSSSPK, 24 VSSSPK, 25 SPKOUT-, 26 VDDSPK, 27 VDDSPK, 28 AUX
text: CODEC; MONO AUDIO

## nRF51x22_QFAx
designator U?
Multi-protocol Bluetooth Low Energy, ANT and 2.4GHz proprietary system-on-chip; Part Number: nRF51x22-QFAA; Manufacturer: Nordic Semiconductor; Value: nRF51x22-QFAA; Note: nRF51422 - QFN48 6x6 0.4mm pitch; Artikkelnr Noca: N.A.; Manufacturer Part Number: nRF51x22-QFAA; Datasheet: *; LatestRevisionDate: 2014-09-24; Pin Count: 48; Publisher: Nordic Semiconductor; Published: 2014-09-24; Supplier: Nordic Semiconductor; Supplier part number: *; 2nd source Supplier: *; 2nd source part number: *; Footprint Doc: QFN-48; Artikkelnr Simpro: N.A.
footprint QFN40P600X600X90-48N (Footprint not found)
pins: 1 VDD (power), 2 DCC (out), 3 P0.30 (io), 4 P0.00 (io), 5 P0.01 (io), 6 P0.02 (io), 7 P0.03 (io), 8 P0.04 (io), 9 P0.05 (io), 10 P0.06 (io), 11 P0.07 (io), 12 VDD (power), 13 VSS (power), 14 P0.08 (io), 15 P0.09 (io), 16 P0.10 (io), 17 P0.11 (io), 18 P0.12 (io), 19 P0.13 (io), 20 P0.14 (io), 21 P0.15 (io), 22 P0.16 (io), 23 SWDIO/nRESET (in), 24 SWDCLK (in), 25 P0.17 (io), 26 P0.18 (io), 27 P0.19 (io), 28 P0.20 (io), 29 DEC2 (power), 30 VDD_PA (power), 31 ANT1 (io), 32 ANT2 (io), 33 VSS (power), 34 VSS (power), 35 AVDD (power), 36 AVDD (power), 37 XC1 (in), 38 XC2 (out), 39 DEC1 (power), 40 P0.21 (io), 41 P0.22 (io), 42 P0.23 (io), 43 P0.24 (io), 44 P0.25 (io), 45 P0.26 (io), 46 P0.27 (io), 47 P0.28 (io), 48 P0.29 (io), 49 (power) hidden to GND
text: nRF51x22

## nRF52832_QFAx
designator U?
Multi-protocol Bluetooth Low Energy, ANT and 2.4GHz proprietary system-on-chip
footprint QFN40P600X600X90-48N
pins: 1 DEC1, 2 P0.00/XL1, 3 P0.01/XL2, 4 P0.02/AIN0, 5 P0.03/AIN1, 6 P0.04/AIN2, 7 P0.05/AIN3, 8 P0.06, 9 P0.07, 10 P0.08, 11 P0.09, 12 P0.10, 13 VDD, 14 P0.11, 15 P0.12, 16 P0.13, 17 P0.14, 18 P0.15, 19 P0.16, 20 P0.17, 21 P0.18, 22 P0.19, 23 P0.20, 24 P0.21/RESET, 25 SWDCLK, 26 SWDIO, 27 P0.22, 28 P0.23, 29 P0.24, 30 ANT, 31 VSS, 32 DEC2, 33 DEC3, 34 XC1, 35 XC2, 36 VDD, 37 P0.25, 38 P0.26, 39 P0.27, 40 P0.28/AIN4, 41 P0.29/AIN5, 42 P0.30/AIN6, 43 P0.31/AIN7, 44 N.C., 45 VSS, 46 DEC4, 47 DCC, 48 VDD, 49 GND (power) hidden to GND
text: nRF52832

## OLED_0.91_128x32_8P
designator OLED?
footprint OLED_12832_0.91"_FPC_8P_0.5
footprint OLED_12832_0.91"_FPC_8P_0.5_2
footprint OLED_12832_0.91"_8P_0.5
pins: 1 VSS, 2 VDD, 3 RES, 4 SCL, 5 SDA, 6 IREF, 7 VCOMH, 8 VCC

## OLED_128x64_30p
designator LCD?
footprint OLED_12864
pins: 1 NC, 2 C2P, 3 C2N, 4 C1P, 5 C1N, 6 VBAT, 7 VSS, 8 VSS, 9 VDD, 10 NV, 11 BS1, 12 BS2, 13 CS#, 14 RES#, 15 D/C#, 16 R/W#, 17 E/RD#, 18 D0, 19 D1, 20 D2, 21 D3, 22 D4, 23 D5, 24 D6, 25 D7, 26 IREF, 27 VCOMH, 28 VCC, 29 NC, 30 NC
text: Oled-12864 SH1106

## OLED_128x64_30p_SSD1315
designator LCD?, comment OLED_128x64_30p
footprint OLED_12864
pins: 1 NC, 2 C2P, 3 C2N, 4 C1P, 5 C1N, 6 VBAT, 7 NC, 8 VSS, 9 VDD, 10 BS0, 11 BS1, 12 NC, 13 CS#, 14 RES#, 15 D/C#, 16 NC, 17 NC, 18 D0, 19 D1, 20 D2, 21 NC, 22 NC, 23 NC, 24 NC, 25 NC, 26 IREF, 27 VCOMH, 28 VCC, 29 VLSS, 30 NC.(GND)
text: Oled-12864 SSD1315

## OPTO_DIP
designator OP?
footprint DIP4 (W.300/L.400)
pins: 1, 2, 3, 4

## OPTO_SMD
designator OPTO?
footprint SOP4
footprint SSOP4
pins: 1, 2, 3, 4

## PAD_SELECT_3P
designator J?
footprint PAD_SELECT_3P
pins: 1, 2, 3

## PE43702
designator U?
footprint LQFN-24-4x4x1mm
pins: 1 C0.25, 2 VDD, 3 ~{P}/S, 4 GND, 5 RF1, 6 GND, 7 GND, 8 GND, 9 GND, 10 GND, 11 GND, 12 GND, 13 GND, 14 RF2, 15 GND, 16 LE, 17 CLK, 18 SI, 19 C16, 20 C8, 21 C4, 22 C2, 23 C1, 24 C0.5

## PIC12F683
designator U?
footprint SOP8
pins: 1 VDD, 2 GP5/T1CKI/OSC1/CLKIN, 3 GP4/AN3/~{T1G}/OSC2/CLKOUT, 4 GP3/~{MCLR}/VPP, 5 GP2/AN2/T0CKI/INT/COUT/CCP1, 6 GP1/AN1/CIN-/VREF/ICSPCLK, 7 GP0/AN0/CIN+/ICSPDAT/ULPWU, 8 VSS

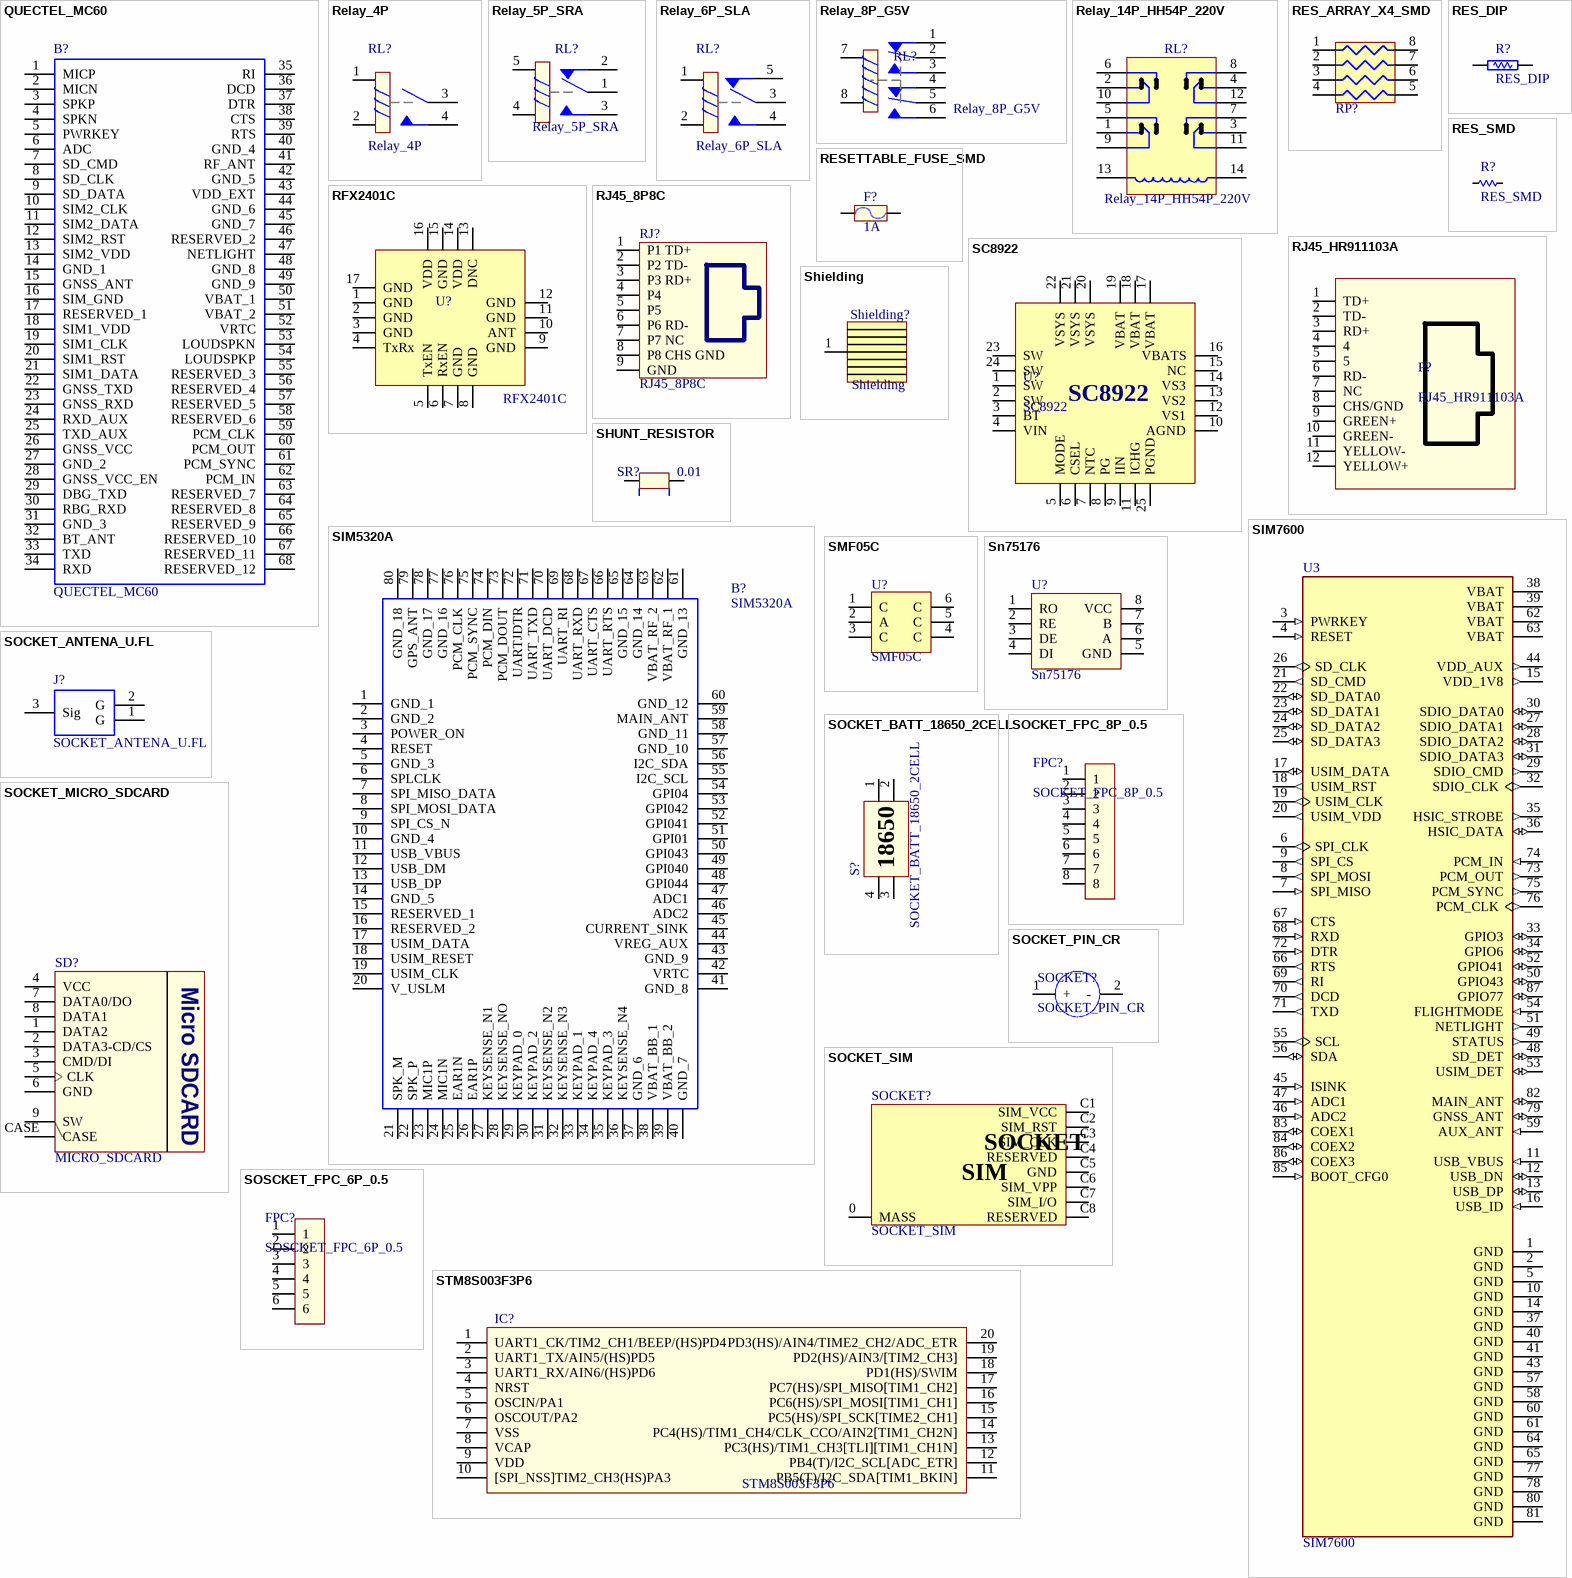
[diagram p4: symbols QUECTEL_MC60 to STM8S003F3P6]

## QUECTEL_MC60
designator B?
GSM/GPRS/GNSS Module Series; Manufacturer_Part_Number: Quectel MC60; Manufacturer_Name: Quectel; Mouser Part Number: *; Mouser Price/Stock: *; RS Part Number: *; RS Price/Stock: *; Datasheet Link: https://www.evelta.com/image/data/Datasheet/1608/Quectel_MC60_Hardware_Design.pdf
footprint MC60E
pins: 1 MICP, 2 MICN, 3 SPKP, 4 SPKN, 5 PWRKEY, 6 ADC, 7 SD_CMD, 8 SD_CLK, 9 SD_DATA, 10 SIM2_CLK, 11 SIM2_DATA, 12 SIM2_RST, 13 SIM2_VDD, 14 GND_1, 15 GNSS_ANT, 16 SIM_GND, 17 RESERVED_1, 18 SIM1_VDD, 19 SIM1_CLK, 20 SIM1_RST, 21 SIM1_DATA, 22 GNSS_TXD, 23 GNSS_RXD, 24 RXD_AUX, 25 TXD_AUX, 26 GNSS_VCC, 27 GND_2, 28 GNSS_VCC_EN, 29 DBG_TXD, 30 RBG_RXD, 31 GND_3, 32 BT_ANT, 33 TXD, 34 RXD, 35 RI, 36 DCD, 37 DTR, 38 CTS, 39 RTS, 40 GND_4, 41 RF_ANT, 42 GND_5, 43 VDD_EXT, 44 GND_6, 45 GND_7, 46 RESERVED_2, 47 NETLIGHT, 48 GND_8, 49 GND_9, 50 VBAT_1, 51 VBAT_2, 52 VRTC, 53 LOUDSPKN, 54 LOUDSPKP, 55 RESERVED_3, 56 RESERVED_4, 57 RESERVED_5, 58 RESERVED_6, 59 PCM_CLK, 60 PCM_OUT, 61 PCM_SYNC, 62 PCM_IN, 63 RESERVED_7, 64 RESERVED_8, 65 RESERVED_9, 66 RESERVED_10, 67 RESERVED_11, 68 RESERVED_12

## Relay_4P
designator RL?
footprint Relay_4P_HF46F-G
pins: 1, 2, 3, 4

## Relay_5P_SRA
designator RL?
Relay
footprint RELAY_5P_SRA
pins: 1, 2, 3, 4, 5

## Relay_6P_SLA
designator RL?
footprint RELAY_6P_SLA_XXV_SL_A
pins: 1, 2, 3 CM, 4 NO, 5 NC

## Relay_8P_G5V
designator RL?
role 1A_MH
footprint RELAY_8P_G5V-2
pins: 1, 2, 3, 4, 5, 6, 7, 8

## Relay_14P_HH54P_220V
designator RL?
footprint Relay_14P_HH54P_220V
pins: 1, 2, 3, 4, 5, 6, 7, 8, 9, 10, 11, 12, 13, 14

## RES_ARRAY_X4_SMD
designator RP?
footprint RES_ARRAY_0603_8P
pins: 1, 2, 3, 4, 5, 6, 7, 8

## RES_DIP
designator R?
footprint RES_DIP_1/2W
footprint RES_DIP_1/4W
footprint RES_DIP_1/8W
footprint RES_DIP_1W
footprint RES_DIP_2W
footprint RES_DIP_5W (R5W , 2 pin, 400 x 950mil)
pins: 1, 2

## RES_SMD
designator R?
footprint RES_SMD_0101 (Tr? SMD 0101)
footprint RES_SMD_0201 (Tr? SMD 0201)
footprint RES_SMD_0402 (Tr? SMD 0402)
footprint RES_SMD_0603 (Tr? SMD 0603)
footprint RES_SMD_0805 (Tr? SMD 0805)
footprint RES_SMD_1206 (Tr? SMD 1206)
footprint RES_SMD_1210 (Tr? SMD 1210)
footprint RES_SMD_1812 (Tr? SMD 1812)
footprint RES_SMD_2010 (Tr? SMD 2010)
footprint RES_SMD_2512 (Tr? SMD 2512)
pins: 1, 2

## RESETTABLE_FUSE_SMD
designator F?, comment 1A
footprint FUSE_SMD1812
footprint FUSE_SMD0805
footprint FUSE_SMD1206
pins: 1, 2

## RFX2401C
designator U?
2.4GHz Amplifier
footprint QFN-16-3X3X1MM
pins: 1 GND, 2 GND, 3 GND, 4 TxRx, 5 TxEN, 6 RxEN, 7 GND, 8 GND, 9 GND, 10 ANT, 11 GND, 12 GND, 13 DNC, 14 VDD, 15 GND, 16 VDD, 17 GND

## RJ45_8P8C
designator RJ?
Cắm; Ma_Hang: MH002393; So_Chan: 2; Don_Vi: Con; Ten_Linh_Kien: RJ 8P Loại Ngắn; Chung_Loai: Cắm; Kieu_Chan: *
footprint RJ45_8P8C
pins: 1 P1 TD+, 2 P2 TD-, 3 P3 RD+, 4 P4, 5 P5, 6 P6 RD-, 7 P7 NC, 8 P8 CHS GND, 9 GND

## RJ45_HR911103A
designator P?
footprint RJ45_HR911103A
pins: 1 TD+, 2 TD-, 3 RD+, 4, 5, 6 RD-, 7 NC, 8 CHS/GND, 9 GREEN+, 10 GREEN-, 11 YELLOW-, 12 YELLOW+

## SC8922
designator U?
High Efficiency, Synchronous Boost Charger for Two/Three-cell Li-ion Battery with Cell Balance and Power Path Management Function
footprint QFN-24-3x3x1mm
pins: 1 SW, 2 SW, 3 BT, 4 VIN, 5 MODE, 6 CSEL, 7 NTC, 8 PG, 9 IIN, 10 AGND, 11 ICHG, 12 VS1, 13 VS2, 14 VS3, 15 NC, 16 VBATS, 17 VBAT, 18 VBAT, 19 VBAT, 20 VSYS, 21 VSYS, 22 VSYS, 23 SW, 24 SW, 25 PGND

## Shielding
designator Shielding?
footprint Shielding
pins: 1

## SHUNT_RESISTOR
designator SR?, comment 0.01
footprint SHUNT_RESISTOR_0.01_1.2X10X7MM
pins: 1, 2

## SIM5320A
designator B?
The SIM5320 series is Dual-Band HSDPA/WCDMA and Quad-Band GSM/GPRS/EDGE module solution in a SMT type which supports HSDPA up to 3.6Mbps for downlink data transfer.; Manufacturer_Name: SIMCOM; Geometry.Height: 1.8mm; Manufacturer_Part_Number: SIM5320A; Mouser Part Number: *; Mouser Price/Stock: *; RS Part Number: *; RS Price/Stock: *; Datasheet Link: http://simcom.ee/documents/SIM5320/SIM5320_Hardware_Design_V1.07.pdf
footprint MD_SIM5320
pins: 1 GND_1, 2 GND_2, 3 POWER_ON, 4 RESET, 5 GND_3, 6 SPLCLK, 7 SPI_MISO_DATA, 8 SPI_MOSI_DATA, 9 SPI_CS_N, 10 GND_4, 11 USB_VBUS, 12 USB_DM, 13 USB_DP, 14 GND_5, 15 RESERVED_1, 16 RESERVED_2, 17 USIM_DATA, 18 USIM_RESET, 19 USIM_CLK, 20 V_USLM, 21 SPK_M, 22 SPK_P, 23 MIC1P, 24 MIC1N, 25 EAR1N, 26 EAR1P, 27 KEYSENSE_N1, 28 KEYSENSE_NO, 29 KEYPAD_0, 30 KEYPAD_2, 31 KEYSENSE_N2, 32 KEYSENSE_N3, 33 KEYPAD_1, 34 KEYPAD_4, 35 KEYPAD_3, 36 KEYSENSE_N4, 37 GND_6, 38 VBAT_BB_1, 39 VBAT_BB_2, 40 GND_7, 41 GND_8, 42 VRTC, 43 GND_9, 44 VREG_AUX, 45 CURRENT_SINK, 46 ADC2, 47 ADC1, 48 GPI044, 49 GPI040, 50 GPI043, 51 GPI01, 52 GPI041, 53 GPI042, 54 GPI04, 55 I2C_SCL, 56 I2C_SDA, 57 GND_10, 58 GND_11, 59 MAIN_ANT, 60 GND_12, 61 GND_13, 62 VBAT_RF_1, 63 VBAT_RF_2, 64 GND_14, 65 GND_15, 66 UART_RTS, 67 UART_CTS, 68 UART_RXD, 69 UART_RI, 70 UART_DCD, 71 UART_TXD, 72 UARTJDTR, 73 PCM_DOUT, 74 PCM_DIN, 75 PCM_SYNC, 76 PCM_CLK, 77 GND_16, 78 GND_17, 79 GPS_ANT, 80 GND_18

## SIM7600
designator U3
Multi-Band LTE-TDD/LTE-FDD/HSPA+ and GSM/GPRS/EDGE module; MP: SIM7600E-H; MF: Simcom; Availability: Unavailable; Package: None; Value: *; Price: None; SnapEDA_Link: https://www.snapeda.com/parts/SIM7600E-H/SIMcom%20Wireless%20solutions%20Co.%2CLtd/view-part/2758290/?ref=snap
footprint MD_A7600
pins: 1 GND (power), 2 GND (power), 3 PWRKEY (in), 4 RESET (in), 5 GND (power), 6 SPI_CLK (out), 7 SPI_MISO (in), 8 SPI_MOSI (out), 9 SPI_CS (out), 10 GND (power), 11 USB_VBUS (in), 12 USB_DN (io), 13 USB_DP (io), 14 GND (power), 15 VDD_1V8 (out), 16 USB_ID (in), 17 USIM_DATA (io), 18 USIM_RST (out), 19 USIM_CLK (out), 20 USIM_VDD (out), 21 SD_CMD (out), 22 SD_DATA0 (io), 23 SD_DATA1 (io), 24 SD_DATA2 (io), 25 SD_DATA3 (io), 26 SD_CLK (out), 27 SDIO_DATA1 (io), 28 SDIO_DATA2 (io), 29 SDIO_CMD (out), 30 SDIO_DATA0 (io), 31 SDIO_DATA3 (io), 32 SDIO_CLK (out), 33 GPIO3 (io), 34 GPIO6 (io), 35 HSIC_STROBE (out), 36 HSIC_DATA (io), 37 GND (power), 38 VBAT (power), 39 VBAT (power), 40 GND (power), 41 GND (power), 43 GND (power), 44 VDD_AUX (out), 45 ISINK (in), 46 ADC2 (in), 47 ADC1 (in), 48 SD_DET (io), 49 STATUS (out), 50 GPIO43 (io), 51 NETLIGHT (out), 52 GPIO41 (io), 53 USIM_DET (io), 54 FLIGHTMODE (in), 55 SCL (out), 56 SDA (io), 57 GND (power), 58 GND (power), 59 AUX_ANT (in), 60 GND (power), 61 GND (power), 62 VBAT (power), 63 VBAT (power), 64 GND (power), 65 GND (power), 66 RTS (out), 67 CTS (in), 68 RXD (in), 69 RI (out), 70 DCD (out), 71 TXD (out), 72 DTR (in), 73 PCM_OUT (out), 74 PCM_IN (in), 75 PCM_SYNC (out), 76 PCM_CLK (out), 77 GND (power), 78 GND (power), 79 GNSS_ANT (io), 80 GND (power), 81 GND (power), 82 MAIN_ANT (io), 83 COEX1 (io), 84 COEX2 (io), 85 BOOT_CFG0 (in), 86 COEX3 (io), 87 GPIO77 (io)

## SMF05C
designator U?
footprint SOT363
pins: 1 C, 2 A, 3 C, 4 C, 5 C, 6 C

## Sn75176
designator U?
RS485
footprint SOIC8
pins: 1 RO, 2 RE, 3 DE, 4 DI, 5 GND, 6 A, 7 B, 8 VCC

## SOCKET_ANTENA_U.FL
designator J?
UFL SMT PCB receptable,DC-6GHz Hirose Straight 50 Surface Mount UFL Connector, Receptacle, Solder Termination Coaxial; Manufacturer_Part_Number: U.FL-R-SMT-1(10); Manufacturer_Name: Hirose; Mouser Part Number: 798-U.FL-R-SMT-110; Mouser Price/Stock: https://www.mouser.com/Search/Refine.aspx?Keyword=798-U.FL-R-SMT-110; RS Part Number: 0557981; RS Price/Stock: http://uk.rs-online.com/web/p/products/0557981; Datasheet Link: https://www.hirose.com/product/en/download_file/key_name/U.FL-R-SMT-1%2810%29/category/Drawing%20(2D)/doc_file_id/37627/?file_category_id=6&item_id=03310472210&is_series=
footprint SOCKET_ANTENA_U.FL
pins: 1 G, 2 G, 3 Sig

## SOCKET_BATT_18650_2CELL
designator S?
footprint SOCKET_18650_2C_SMD
footprint SOCKET_18650_2C_DIP
pins: 1, 2, 3, 4
text: 18650

## SOCKET_FPC_8P_0.5
designator FPC?
footprint socket_fpc_8p_0.5
pins: 1 (power), 2 (power), 3 (power), 4 (power), 5 (power), 6 (power), 7 (power), 8 (power)

## SOCKET_MICRO_SDCARD
designator SD?, comment MICRO_SDCARD
footprint SOCKET_MICRO_SDCARD
pins: 1 DATA2, 2 DATA3-CD/CS, 3 CMD/DI, 4 VCC, 5 CLK, 6 GND, 7 DATA0/DO, 8 DATA1, 9 SW, CASE
text: Micro SDCARD

## SOCKET_PIN_CR
designator SOCKET?
footprint SOCKET_CR1220
pins: 1 +, 2 -

## SOCKET_SIM
designator SOCKET?
footprint SOCKET_MICROSIM_6P
footprint SOCKET_NANOSIM_6P
pins: 0 MASS, C1 SIM_VCC, C2 SIM_RST, C3 SIM_CLK, C4 RESERVED, C5 GND, C6 SIM_VPP, C7 SIM_I/O, C8 RESERVED
text: SOCKET; SIM

## SOSCKET_FPC_6P_0.5
designator FPC?
footprint Socket_FPC_6p_0.5
pins: 1 (power), 2 (power), 3 (power), 4 (power), 5 (power), 6 (power)

## STM8S003F3P6
designator IC?
MCU 8BIT  8KB FLASH TSSOP-20; Value: 24Cxx; Value: DIP 8; Copyright by: VanDungEvn
footprint TSSOP20
pins: 1 UART1_CK/TIM2_CH1/BEEP/(HS)PD4, 2 UART1_TX/AIN5/(HS)PD5, 3 UART1_RX/AIN6/(HS)PD6, 4 NRST, 5 OSCIN/PA1, 6 OSCOUT/PA2, 7 VSS, 8 VCAP, 9 VDD, 10 [SPI_NSS]TIM2_CH3(HS)PA3, 11 PB5(T)/I2C_SDA[TIM1_BKIN], 12 PB4(T)/I2C_SCL[ADC_ETR], 13 PC3(HS)/TIM1_CH3[TLI][TIM1_CH1N], 14 PC4(HS)/TIM1_CH4/CLK_CCO/AIN2[TIM1_CH2N], 15 PC5(HS)/SPI_SCK[TIME2_CH1], 16 PC6(HS)/SPI_MOSI[TIM1_CH1], 17 PC7(HS)/SPI_MISO[TIM1_CH2], 18 PD1(HS)/SWIM, 19 PD2(HS)/AIN3/[TIM2_CH3], 20 PD3(HS)/AIN4/TIME2_CH2/ADC_ETR

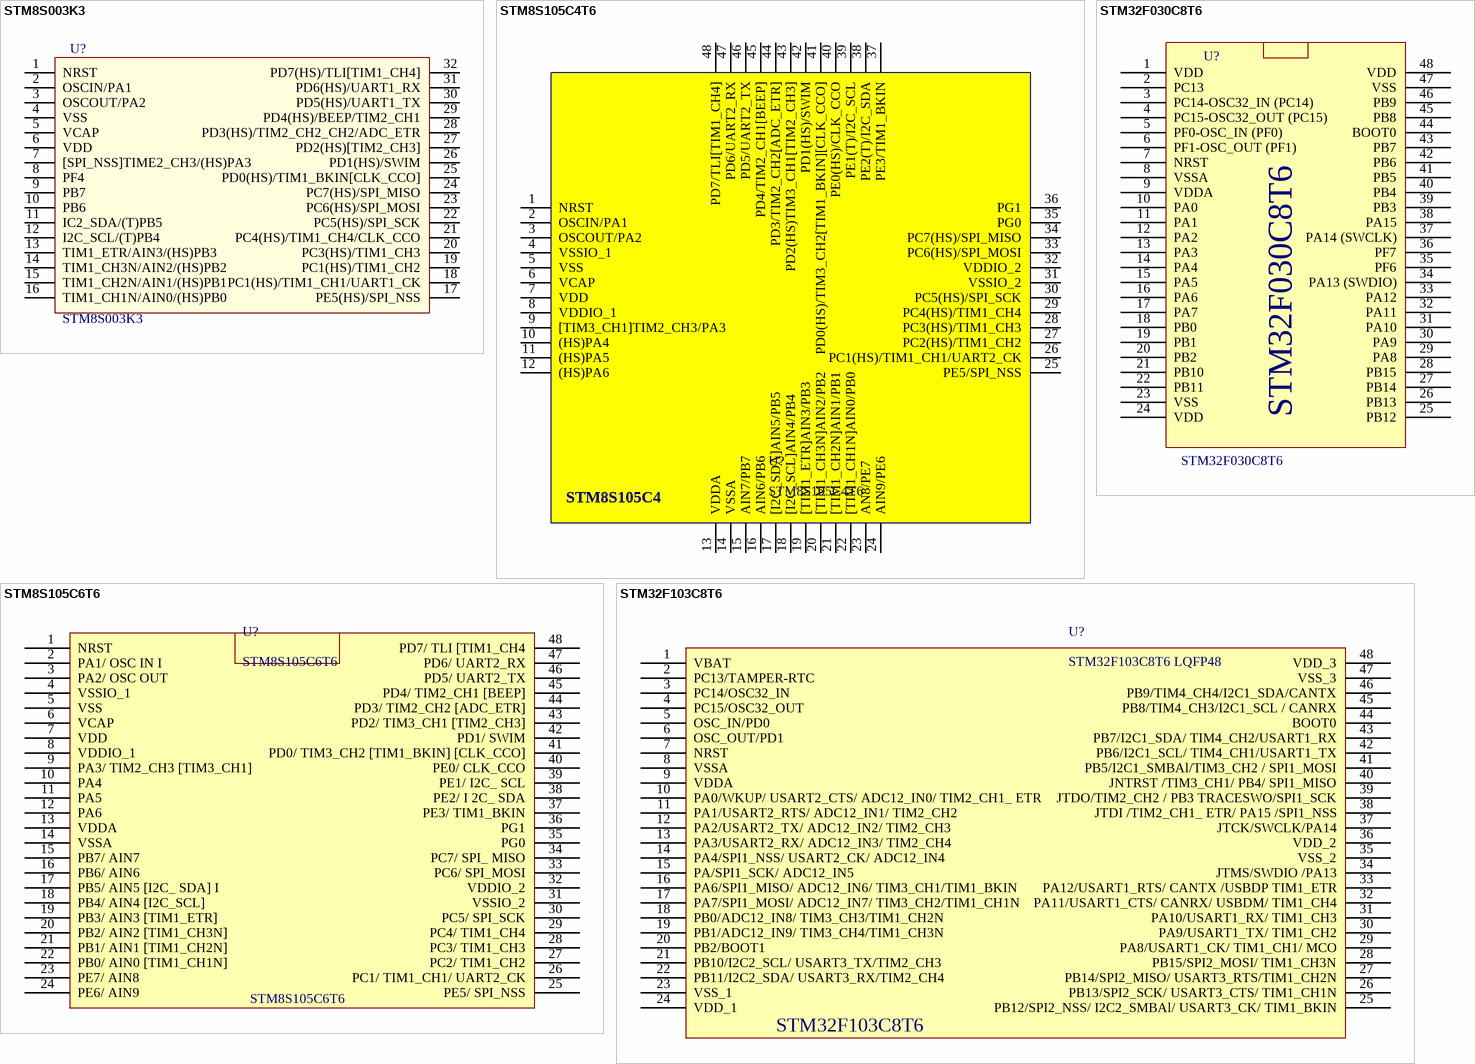
[diagram p5: symbols STM8S003K3 to STM32F103C8T6]

## STM8S003K3
designator U?
MCU 8BIT  8KB FLASH LQFP-32
footprint TQFP32 (Footprint not found)
pins: 1 NRST, 2 OSCIN/PA1, 3 OSCOUT/PA2, 4 VSS, 5 VCAP, 6 VDD, 7 [SPI_NSS]TIME2_CH3/(HS)PA3, 8 PF4, 9 PB7, 10 PB6, 11 IC2_SDA/(T)PB5, 12 I2C_SCL/(T)PB4, 13 TIM1_ETR/AIN3/(HS)PB3, 14 TIM1_CH3N/AIN2/(HS)PB2, 15 TIM1_CH2N/AIN1/(HS)PB1, 16 TIM1_CH1N/AIN0/(HS)PB0, 17 PE5(HS)/SPI_NSS, 18 PC1(HS)/TIM1_CH1/UART1_CK, 19 PC1(HS)/TIM1_CH2, 20 PC3(HS)/TIM1_CH3, 21 PC4(HS)/TIM1_CH4/CLK_CCO, 22 PC5(HS)/SPI_SCK, 23 PC6(HS)/SPI_MOSI, 24 PC7(HS)/SPI_MISO, 25 PD0(HS)/TIM1_BKIN[CLK_CCO], 26 PD1(HS)/SWIM, 27 PD2(HS)[TIM2_CH3], 28 PD3(HS)/TIM2_CH2_CH2/ADC_ETR, 29 PD4(HS)/BEEP/TIM2_CH1, 30 PD5(HS)/UART1_TX, 31 PD6(HS)/UART1_RX, 32 PD7(HS)/TLI[TIM1_CH4]

## STM8S105C4T6
designator U?
STM8S105C4T6 LQFP48
footprint LQFP48
pins: 1 NRST, 2 OSCIN/PA1, 3 OSCOUT/PA2, 4 VSSIO_1, 5 VSS, 6 VCAP, 7 VDD, 8 VDDIO_1, 9 [TIM3_CH1]TIM2_CH3/PA3, 10 (HS)PA4, 11 (HS)PA5, 12 (HS)PA6, 13 VDDA, 14 VSSA, 15 AIN7/PB7, 16 AIN6/PB6, 17 [I2C_SDA]AIN5/PB5, 18 [I2C_SCL]AIN4/PB4, 19 [TIM1_ETR]AIN3/PB3, 20 [TIM1_CH3N]AIN2/PB2, 21 [TIM1_CH2N]AIN1/PB1, 22 [TIM1_CH1N]AIN0/PB0, 23 AN8/PE7, 24 AIN9/PE6, 25 PE5/SPI_NSS, 26 PC1(HS)/TIM1_CH1/UART2_CK, 27 PC2(HS)/TIM1_CH2, 28 PC3(HS)/TIM1_CH3, 29 PC4(HS)/TIM1_CH4, 30 PC5(HS)/SPI_SCK, 31 VSSIO_2, 32 VDDIO_2, 33 PC6(HS)/SPI_MOSI, 34 PC7(HS)/SPI_MISO, 35 PG0, 36 PG1, 37 PE3/TIM1_BKIN, 38 PE2(T)/I2C_SDA, 39 PE1(T)/I2C_SCL, 40 PE0(HS)/CLK_CCO, 41 PD0(HS)/TIM3_CH2[TIM1_BKIN][CLK_CCO], 42 PD1(HS)/SWIM, 43 PD2(HS)TIM3_CH1[TIM2_CH3], 44 PD3/TIM2_CH2[ADC_ETR], 45 PD4/TIM2_CH1[BEEP], 46 PD5/UART2_TX, 47 PD6/UART2_RX, 48 PD7/TLI[TIM1_CH4]
text: STM8S105C4

## STM8S105C6T6
designator U?
STM8S105C6T6 QFP48
footprint LQFP48
pins: 1 NRST, 2 PA1/ OSC IN I, 3 PA2/ OSC OUT, 4 VSSIO_1, 5 VSS , 6 VCAP, 7 VDD, 8 VDDIO_1, 9 PA3/ TIM2_CH3 [TIM3_CH1], 10 PA4, 11 PA5, 12 PA6, 13 VDDA, 14 VSSA, 15 PB7/ AIN7, 16 PB6/ AIN6, 17 PB5/ AIN5 [I2C_ SDA] I, 18 PB4/ AIN4 [I2C_SCL], 19 PB3/ AIN3 [TIM1_ETR], 20 PB2/ AIN2 [TIM1_CH3N], 21 PB1/ AIN1 [TIM1_CH2N], 22 PB0/ AIN0 [TIM1_CH1N], 23 PE7/ AIN8, 24 PE6/ AIN9, 25 PE5/ SPI_NSS, 26 PC1/ TIM1_CH1/ UART2_CK, 27 PC2/ TIM1_CH2, 28 PC3/ TIM1_CH3, 29 PC4/ TIM1_CH4, 30 PC5/ SPI_SCK, 31 VSSIO_2, 32 VDDIO_2, 33 PC6/ SPI_MOSI, 34 PC7/ SPI_ MISO, 35 PG0, 36 PG1, 37 PE3/ TIM1_BKIN, 38 PE2/ I 2C_ SDA, 39 PE1/ I2C_ SCL, 40 PE0/ CLK_CCO, 41 PD0/ TIM3_CH2 [TIM1_BKIN] [CLK_CCO], 42 PD1/ SWIM, 43 PD2/ TIM3_CH1 [TIM2_CH3], 44 PD3/ TIM2_CH2 [ADC_ETR], 45 PD4/ TIM2_CH1 [BEEP], 46 PD5/ UART2_TX, 47 PD6/ UART2_RX, 48 PD7/ TLI [TIM1_CH4

## STM32F030C8T6
designator U?
footprint LQFP48
pins: 1 VDD, 2 PC13, 3 PC14-OSC32_IN (PC14), 4 PC15-OSC32_OUT (PC15), 5 PF0-OSC_IN (PF0), 6 PF1-OSC_OUT (PF1), 7 NRST, 8 VSSA, 9 VDDA, 10 PA0, 11 PA1, 12 PA2, 13 PA3, 14 PA4, 15 PA5, 16 PA6, 17 PA7, 18 PB0, 19 PB1, 20 PB2, 21 PB10, 22 PB11, 23 VSS, 24 VDD, 25 PB12, 26 PB13, 27 PB14, 28 PB15, 29 PA8, 30 PA9, 31 PA10, 32 PA11, 33 PA12, 34 PA13 (SWDIO), 35 PF6, 36 PF7, 37 PA14 (SWCLK), 38 PA15, 39 PB3, 40 PB4, 41 PB5, 42 PB6, 43 PB7, 44 BOOT0, 45 PB8, 46 PB9, 47 VSS, 48 VDD

## STM32F103C8T6
designator U?, comment STM32F103C8T6 LQFP48
footprint LQFP48
pins: 1 VBAT, 2 PC13/TAMPER-RTC, 3 PC14/OSC32_IN, 4 PC15/OSC32_OUT, 5 OSC_IN/PD0, 6 OSC_OUT/PD1, 7 NRST, 8 VSSA, 9 VDDA, 10 PA0/WKUP/ USART2_CTS/ ADC12_IN0/ TIM2_CH1_ ETR, 11 PA1/USART2_RTS/ ADC12_IN1/ TIM2_CH2, 12 PA2/USART2_TX/ ADC12_IN2/ TIM2_CH3, 13 PA3/USART2_RX/ ADC12_IN3/ TIM2_CH4, 14 PA4/SPI1_NSS/ USART2_CK/ ADC12_IN4, 15 PA/SPI1_SCK/ ADC12_IN5, 16 PA6/SPI1_MISO/ ADC12_IN6/ TIM3_CH1/TIM1_BKIN, 17 PA7/SPI1_MOSI/ ADC12_IN7/ TIM3_CH2/TIM1_CH1N, 18 PB0/ADC12_IN8/ TIM3_CH3/TIM1_CH2N, 19 PB1/ADC12_IN9/ TIM3_CH4/TIM1_CH3N, 20 PB2/BOOT1, 21 PB10/I2C2_SCL/ USART3_TX/TIM2_CH3, 22 PB11/I2C2_SDA/ USART3_RX/TIM2_CH4, 23 VSS_1, 24 VDD_1, 25 PB12/SPI2_NSS/ I2C2_SMBAl/ USART3_CK/ TIM1_BKIN, 26 PB13/SPI2_SCK/ USART3_CTS/ TIM1_CH1N, 27 PB14/SPI2_MISO/ USART3_RTS/TIM1_CH2N, 28 PB15/SPI2_MOSI/ TIM1_CH3N, 29 PA8/USART1_CK/ TIM1_CH1/ MCO, 30 PA9/USART1_TX/ TIM1_CH2, 31 PA10/USART1_RX/ TIM1_CH3, 32 PA11/USART1_CTS/ CANRX/ USBDM/ TIM1_CH4, 33 PA12/USART1_RTS/ CANTX /USBDP TIM1_ETR, 34 JTMS/SWDIO /PA13, 35 VSS_2, 36 VDD_2, 37 JTCK/SWCLK/PA14, 38 JTDI /TIM2_CH1_ ETR/ PA15 /SPI1_NSS, 39 JTDO/TIM2_CH2 / PB3 TRACESWO/SPI1_SCK, 40 JNTRST /TIM3_CH1/ PB4/ SPI1_MISO, 41 PB5/I2C1_SMBAl/TIM3_CH2 / SPI1_MOSI, 42 PB6/I2C1_SCL/ TIM4_CH1/USART1_TX, 43 PB7/I2C1_SDA/ TIM4_CH2/USART1_RX, 44 BOOT0, 45 PB8/TIM4_CH3/I2C1_SCL / CANRX, 46  PB9/TIM4_CH4/I2C1_SDA/CANTX, 47 VSS_3, 48 VDD_3

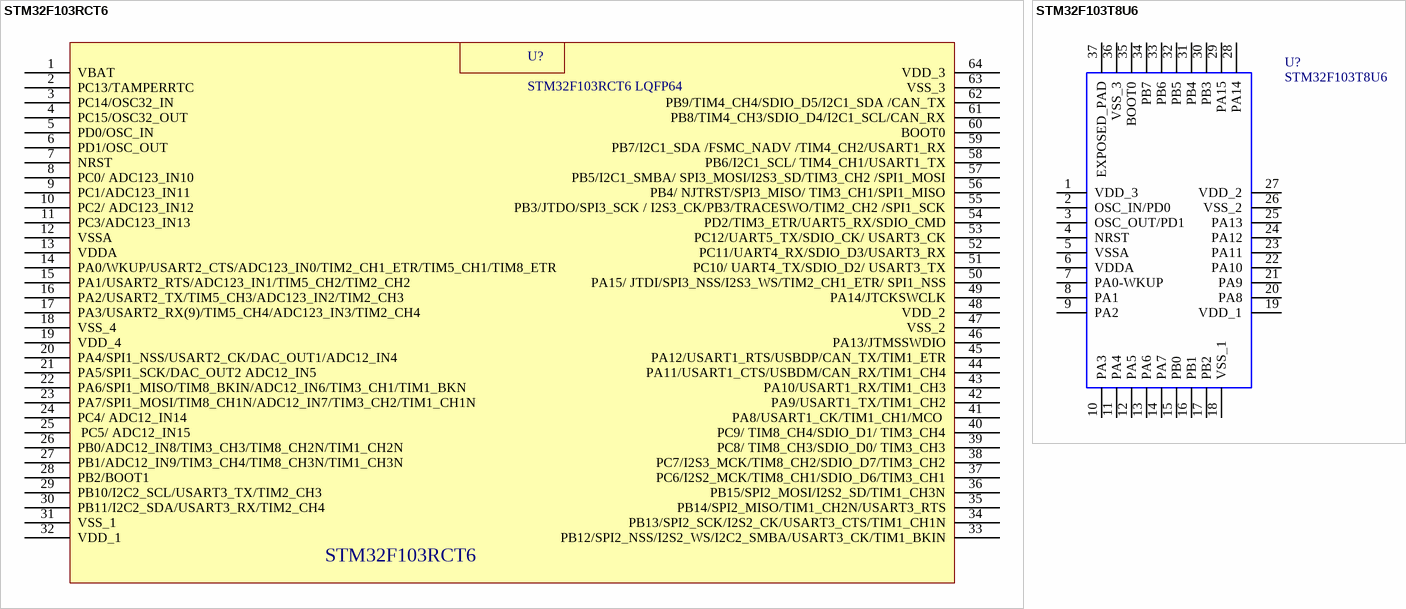
[diagram p6: symbols STM32F103RCT6 to STM32F103T8U6]